# Altium schematic symbol library fpga_zynq.SchLib: 8 symbols (part 2 of 3)
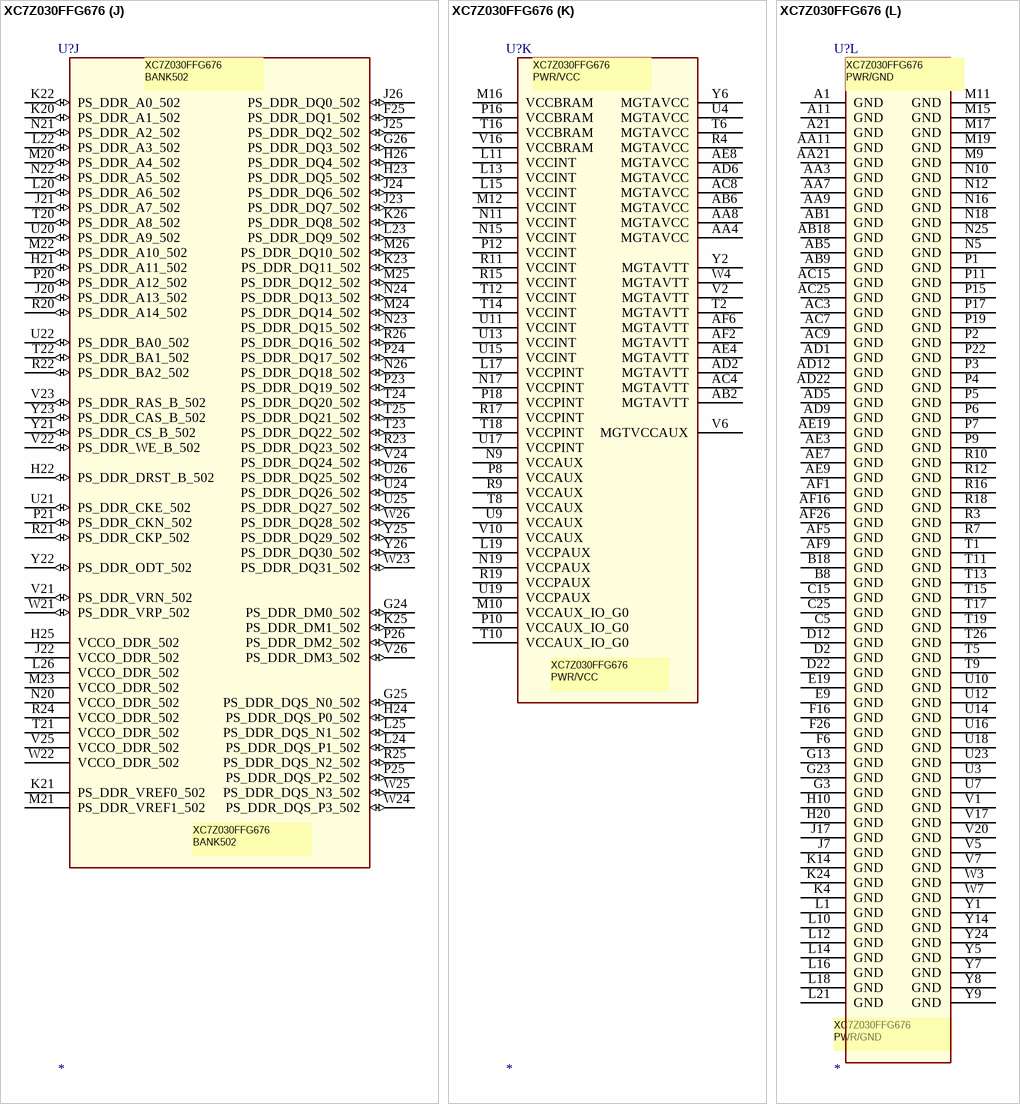
[diagram p25: symbol XC7Z030FFG676]

## XC7Z030FFG676
designator U?
MANF: Xilinx; MANF_P#: XC7Z030FFG676A; VALUE: XC7Z030FFG676A
footprint BGA80_484_S19 (BGA, 484-Leads, Body 19.0x19.0mm,  Pitch 0.80mm)
part A pins: M13 GNDADC_0 (io), M14 VCCADC_0 (io), N13 VREFN_0 (io), N14 VP_0 (io), P13 VN_0 (io), P14 VREFP_0 (io), R8 INIT_B_0 (io), R13 DXN_0 (io), R14 DXP_0 (io), T7 CFGBVS_0 (io), U8 RSVDVCC3 (io), V8 RSVDVCC2 (io), V9 PROGRAM_B_0 (io), V11 TDI_0 (io), V12 VCCO_0 (power), V13 RSVDGND (io), V14 VCCO_0 (power), V15 VCCBATT_0 (io), W8 RSVDVCC1 (io), W9 DONE_0 (io), W10 TDO_0, W11 TMS_0 (io), W12 TCK_0 (io)
part B pins: AA10 IO_L3N_T0_DQS_12 (io), AA12 IO_L6N_T0_VREF_12 (io), AA13 IO_L6P_T0_12 (io), AA14 IO_L22N_T3_12 (io), AA15 IO_L22P_T3_12 (io), AA16 VCCO_12 (power), AA17 IO_L19N_T3_VREF_12 (io), AB10 IO_L4N_T0_12 (io), AB11 IO_L4P_T0_12 (io), AB12 IO_L2P_T0_12 (io), AB13 VCCO_12 (power), AB14 IO_L14N_T2_SRCC_12 (io), AB15 IO_L14P_T2_SRCC_12 (io), AB16 IO_L20N_T3_12 (io), AB17 IO_L20P_T3_12 (io), AC10 VCCO_12 (power), AC11 IO_L2N_T0_12 (io), AC12 IO_L11P_T1_SRCC_12 (io), AC13 IO_L12P_T1_MRCC_12 (io), AC14 IO_L13P_T2_MRCC_12 (io), AC16 IO_L21N_T3_DQS_12 (io), AC17 IO_L21P_T3_DQS_12 (io), AD10 IO_L7N_T1_12 (io), AD11 IO_L11N_T1_SRCC_12 (io), AD13 IO_L12N_T1_MRCC_12 (io), AD14 IO_L13N_T2_MRCC_12 (io), AD15 IO_L15N_T2_DQS_12 (io), AD16 IO_L15P_T2_DQS_12 (io), AD17 VCCO_12 (power), AE10 IO_L7P_T1_12 (io), AE11 IO_L9P_T1_DQS_12 (io), AE12 IO_L8P_T1_12 (io), AE13 IO_L10P_T1_12 (io), AE14 VCCO_12 (power), AE15 IO_L17N_T2_12 (io), AE16 IO_L17P_T2_12 (io), AE17 IO_L18P_T2_12 (io), AF10 IO_L9N_T1_DQS_12 (io), AF11 VCCO_12 (power), AF12 IO_L8N_T1_12 (io), AF13 IO_L10N_T1_12 (io), AF14 IO_L16N_T2_12 (io), AF15 IO_L16P_T2_12 (io), AF17 IO_L18N_T2_12 (io), W13 IO_L5P_T0_12 (io), W14 IO_0_12 (io), W15 IO_L24N_T3_12 (io), W16 IO_L24P_T3_12 (io), W17 IO_25_12 (io), Y10 IO_L3P_T0_DQS_12 (io), Y11 IO_L1N_T0_12 (io), Y12 IO_L1P_T0_12 (io), Y13 IO_L5N_T0_12 (io), Y15 IO_L23N_T3_12 (io), Y16 IO_L23P_T3_12 (io), Y17 IO_L19P_T3_12 (io)
part C pins: AA18 IO_L24N_T3_13 (io), AA19 IO_L22P_T3_13 (io), AA20 IO_L20P_T3_13 (io), AA22 IO_L10P_T1_13 (io), AA23 IO_L10N_T1_13 (io), AA24 IO_L6P_T0_13 (io), AA25 IO_L1P_T0_13 (io), AA26 VCCO_13 (power), AB19 IO_L22N_T3_13 (io), AB20 IO_L20N_T3_13 (io), AB21 IO_L9P_T1_DQS_13 (io), AB22 IO_L9N_T1_DQS_13 (io), AB23 VCCO_13 (power), AB24 IO_L6N_T0_VREF_13 (io), AB25 IO_L1N_T0_13 (io), AB26 IO_L2P_T0_13 (io), AC18 IO_L21P_T3_DQS_13 (io), AC19 IO_L21N_T3_DQS_13 (io), AC20 VCCO_13 (power), AC21 IO_L14P_T2_SRCC_13 (io), AC22 IO_L14N_T2_SRCC_13 (io), AC23 IO_L12P_T1_MRCC_13 (io), AC24 IO_L12N_T1_MRCC_13 (io), AC26 IO_L2N_T0_13 (io), AD18 IO_L17P_T2_13 (io), AD19 IO_L17N_T2_13 (io), AD20 IO_L13P_T2_MRCC_13 (io), AD21 IO_L13N_T2_MRCC_13 (io), AD23 IO_L11P_T1_SRCC_13 (io), AD24 IO_L11N_T1_SRCC_13 (io), AD25 IO_L4P_T0_13 (io), AD26 IO_L4N_T0_13 (io), AE18 IO_L18P_T2_13 (io), AE20 IO_L16P_T2_13 (io), AE21 IO_L16N_T2_13 (io), AE22 IO_L7P_T1_13 (io), AE23 IO_L8P_T1_13 (io), AE24 VCCO_13 (power), AE25 IO_L3P_T0_DQS_13 (io), AE26 IO_L3N_T0_DQS_13 (io), AF18 IO_L18N_T2_13 (io), AF19 IO_L15P_T2_DQS_13 (io), AF20 IO_L15N_T2_DQS_13 (io), AF21 VCCO_13 (power), AF22 IO_L7N_T1_13 (io), AF23 IO_L8N_T1_13 (io), AF24 IO_L5P_T0_13 (io), AF25 IO_L5N_T0_13 (io), V18 IO_25_13 (io), V19 IO_0_13 (io), W18 IO_L23P_T3_13 (io), W19 IO_L23N_T3_13 (io), W20 IO_L19P_T3_13 (io), Y18 IO_L24P_T3_13 (io), Y19 VCCO_13 (power), Y20 IO_L19N_T3_VREF_13 (io)
part D pins: C1 IO_L4N_T0_33 (io), D1 IO_L4P_T0_33 (io), D3 IO_L2N_T0_33 (io), D4 IO_L2P_T0_33 (io), E1 IO_L5N_T0_33 (io), E2 IO_L5P_T0_33 (io), E3 IO_L6N_T0_VREF_33 (io), E4 VCCO_33 (power), F1 VCCO_33 (power), F2 IO_L3N_T0_DQS_33 (io), F3 IO_L6P_T0_33 (io), F4 IO_L1N_T0_33 (io), G1 IO_L10N_T1_33 (io), G2 IO_L3P_T0_DQS_33 (io), G4 IO_L1P_T0_33 (io), H1 IO_L7N_T1_33 (io), H2 IO_L10P_T1_33 (io), H3 IO_L8N_T1_33 (io), H4 IO_L8P_T1_33 (io), H5 VCCO_33 (power), J1 IO_L7P_T1_33 (io), J2 VCCO_33 (power), J3 IO_L12N_T1_MRCC_33 (io), J4 IO_L12P_T1_MRCC_33 (io), J5 IO_L20N_T3_33 (io), J6 IO_L22N_T3_33 (io), K1 IO_L9N_T1_DQS_33 (io), K2 IO_L9P_T1_DQS_33 (io), K3 IO_L11N_T1_SRCC_33 (io), K5 IO_L20P_T3_33 (io), K6 IO_L22P_T3_33 (io), K7 IO_L24N_T3_33 (io), K8 IO_L24P_T3_33 (io), L2 IO_L16N_T2_33 (io), L3 IO_L11P_T1_SRCC_33 (io), L4 IO_L14N_T2_SRCC_33 (io), L5 IO_L14P_T2_SRCC_33 (io), L6 VCCO_33 (power), L7 IO_L19N_T3_VREF_33 (io), L8 IO_L21N_T3_DQS_33 (io), L9 IO_0_VRN_33 (io), M1 IO_L18N_T2_33 (io), M2 IO_L16P_T2_33 (io), M3 VCCO_33 (power), M4 IO_L17N_T2_33 (io), M5 IO_L13N_T2_MRCC_33 (io), M6 IO_L13P_T2_MRCC_33 (io), M7 IO_L19P_T3_33 (io), M8 IO_L21P_T3_DQS_33 (io), N1 IO_L18P_T2_33 (io), N2 IO_L15N_T2_DQS_33 (io), N3 IO_L15P_T2_DQS_33 (io), N4 IO_L17P_T2_33 (io), N6 IO_L23N_T3_33 (io), N7 IO_L23P_T3_33 (io), N8 IO_25_VRP_33 (io)
part E pins: A2 IO_L24N_T3_34 (io), A3 IO_L22N_T3_34 (io), A4 IO_L22P_T3_34 (io), A5 IO_L21N_T3_DQS_34 (io), A6 VCCO_34 (power), A7 IO_L18N_T2_34 (io), A8 IO_L17N_T2_34 (io), A9 IO_L17P_T2_34 (io), A10 IO_L16N_T2_34 (io), B1 IO_L23N_T3_34 (io), B2 IO_L24P_T3_34 (io), B3 VCCO_34 (power), B4 IO_L20N_T3_34 (io), B5 IO_L20P_T3_34 (io), B6 IO_L21P_T3_DQS_34 (io), B7 IO_L18P_T2_34 (io), B9 IO_L15N_T2_DQS_34 (io), B10 IO_L16P_T2_34 (io), C2 IO_L23P_T3_34 (io), C3 IO_L19N_T3_VREF_34 (io), C4 IO_L19P_T3_34 (io), C6 IO_L14N_T2_SRCC_34 (io), C7 IO_L13N_T2_MRCC_34 (io), C8 IO_L13P_T2_MRCC_34 (io), C9 IO_L15P_T2_DQS_34 (io), C10 VCCO_34 (power), D5 IO_L10N_T1_34 (io), D6 IO_L14P_T2_SRCC_34 (io), D7 VCCO_34 (power), D8 IO_L8N_T1_34 (io), D9 IO_L8P_T1_34 (io), E5 IO_L7N_T1_34 (io), E6 IO_L10P_T1_34 (io), E7 IO_L11N_T1_SRCC_34 (io), E8 IO_L9N_T1_DQS_34 (io), F5 IO_L7P_T1_34 (io), F7 IO_L12N_T1_MRCC_34 (io), F8 IO_L11P_T1_SRCC_34 (io), F9 IO_L9P_T1_DQS_34 (io), G5 IO_L2N_T0_34 (io), G6 IO_L2P_T0_34 (io), G7 IO_L12P_T1_MRCC_34 (io), G8 VCCO_34 (power), G9 IO_L3N_T0_DQS_34 (io), H6 IO_L4N_T0_34 (io), H7 IO_L4P_T0_34 (io), H8 IO_L6N_T0_VREF_34 (io), H9 IO_L3P_T0_DQS_PUDC_B_34 (io), H11 IO_L1N_T0_34 (io), J8 IO_L6P_T0_34 (io), J9 IO_L5N_T0_34 (io), J10 IO_L5P_T0_34 (io), J11 IO_L1P_T0_34 (io), K9 VCCO_34 (power), K10 IO_25_VRP_34 (io), K11 IO_0_VRN_34 (io)
part F pins: A12 IO_L24N_T3_AD15N_35 (io), A13 IO_L24P_T3_AD15P_35 (io), A14 IO_L21N_T3_DQS_AD14N_35 (io), A15 IO_L21P_T3_DQS_AD14P_35 (io), A16 VCCO_35 (power), A17 IO_L18N_T2_AD13N_35 (io), B11 IO_L23N_T3_35 (io), B12 IO_L22N_T3_AD7N_35 (io), B13 VCCO_35 (power), B14 IO_L20N_T3_AD6N_35 (io), B15 IO_L17N_T2_AD5N_35 (io), B16 IO_L17P_T2_AD5P_35 (io), B17 IO_L18P_T2_AD13P_35 (io), C11 IO_L23P_T3_35 (io), C12 IO_L22P_T3_AD7P_35 (io), C13 IO_L19N_T3_VREF_35 (io), C14 IO_L20P_T3_AD6P_35 (io), C16 IO_L15N_T2_DQS_AD12N_35 (io), C17 IO_L15P_T2_DQS_AD12P_35 (io), D10 IO_L2N_T0_AD8N_35 (io), D11 IO_L4N_T0_35 (io), D13 IO_L19P_T3_35 (io), D14 IO_L13N_T2_MRCC_35 (io), D15 IO_L13P_T2_MRCC_35 (io), D16 IO_L16N_T2_35 (io), E10 IO_L2P_T0_AD8P_35 (io), E11 IO_L4P_T0_35 (io), E12 IO_L1N_T0_AD0N_35 (io), E13 IO_L6N_T0_VREF_35 (io), E14 VCCO_35 (power), E15 IO_L14N_T2_AD4N_SRCC_35 (io), E16 IO_L16P_T2_35 (io), F10 IO_L3N_T0_DQS_AD1N_35 (io), F11 VCCO_35 (power), F12 IO_L1P_T0_AD0P_35 (io), F13 IO_L6P_T0_35 (io), F14 IO_L11N_T1_SRCC_35 (io), F15 IO_L14P_T2_AD4P_SRCC_35 (io), G10 IO_L3P_T0_DQS_AD1P_35 (io), G11 IO_L5N_T0_AD9N_35 (io), G12 IO_L5P_T0_AD9P_35 (io), G14 IO_L11P_T1_SRCC_35 (io), G15 IO_L10N_T1_AD11N_35 (io), G16 IO_L10P_T1_AD11P_35 (io), H12 IO_L7N_T1_AD2N_35 (io), H13 IO_L7P_T1_AD2P_35 (io), H14 IO_L12N_T1_MRCC_35 (io), H15 VCCO_35 (power), H16 IO_0_VRN_35 (io), J12 VCCO_35 (power), J13 IO_L8N_T1_AD10N_35 (io), J14 IO_L12P_T1_MRCC_35 (io), J15 IO_L9N_T1_DQS_AD3N_35 (io), K12 IO_25_VRP_35 (io), K13 IO_L8P_T1_AD10P_35 (io), K15 IO_L9P_T1_DQS_AD3P_35 (io)
part G pins: AA1 MGTXTXN0_112 (io), AA2 MGTXTXP0_112 (io), AB3 MGTXRXN0_112 (io), AB4 MGTXRXP0_112 (io), AB7 MGTAVTTRCAL_112 (io), AB8 MGTRREF_112 (io), R1 MGTXTXN3_112 (io), R2 MGTXTXP3_112 (io), R5 MGTREFCLK0N_112 (io), R6 MGTREFCLK0P_112 (io), T3 MGTXRXN3_112 (io), T4 MGTXRXP3_112 (io), U1 MGTXTXN2_112 (io), U2 MGTXTXP2_112 (io), U5 MGTREFCLK1N_112 (io), U6 MGTREFCLK1P_112 (io), V3 MGTXRXN2_112 (io), V4 MGTXRXP2_112 (io), W1 MGTXTXN1_112 (io), W2 MGTXTXP1_112 (io), Y3 MGTXRXN1_112 (io), Y4 MGTXRXP1_112 (io)
part H pins: A23 PS_MIO12_500 (io), A24 PS_MIO8_500 (io), A25 PS_MIO10_500 (io), A26 VCCO_MIO0_500 (power), B23 VCCO_MIO0_500 (power), B24 PS_CLK_500 (io), B25 PS_MIO13_500 (io), B26 PS_MIO11_500 (io), C23 PS_POR_B_500 (io), C24 PS_MIO15_500 (io), C26 PS_MIO5_500 (io), D23 PS_MIO14_500 (io), D24 PS_MIO9_500 (io), D25 PS_MIO3_500 (io), D26 PS_MIO1_500 (io), E23 PS_MIO7_500 (io), E24 VCCO_MIO0_500 (power), E25 PS_MIO2_500 (io), E26 PS_MIO0_500 (io), F23 PS_MIO6_500 (io), F24 PS_MIO4_500 (io)
part I pins: A18 PS_MIO49_501 (io), A19 PS_MIO53_501 (io), A20 PS_MIO52_501 (io), A22 PS_SRST_B_501 (io), B19 PS_MIO47_501 (io), B20 PS_MIO51_501 (io), B21 PS_MIO48_501 (io), B22 PS_MIO50_501 (io), C18 PS_MIO45_501 (io), C19 PS_MIO41_501 (io), C20 VCCO_MIO1_501 (power), C21 PS_MIO39_501 (io), C22 PS_MIO40_501 (io), D17 VCCO_MIO1_501 (power), D18 PS_MIO43_501 (io), D19 PS_MIO35_501 (io), D20 PS_MIO37_501 (io), D21 PS_MIO38_501 (io), E17 PS_MIO46_501 (io), E18 PS_MIO44_501 (io), E20 PS_MIO29_501 (io), E21 PS_MIO31_501 (io), E22 PS_MIO33_501 (io), F17 PS_MIO42_501 (io), F18 PS_MIO27_501 (io), F19 PS_MIO25_501 (io), F20 PS_MIO23_501 (io), F21 VCCO_MIO1_501 (power), F22 PS_MIO21_501 (io), G17 PS_MIO17_501 (io), G18 VCCO_MIO1_501 (power), G19 PS_MIO19_501 (io), G20 PS_MIO18_501 (io), G21 PS_MIO16_501 (io), G22 PS_MIO22_501 (io), H17 PS_MIO26_501 (io), H18 PS_MIO_VREF_501 (io), H19 PS_MIO20_501 (io), J16 PS_MIO34_501 (io), J18 PS_MIO28_501 (io), J19 PS_MIO24_501 (io), K16 PS_MIO36_501 (io), K17 PS_MIO32_501 (io), K18 VCCO_MIO1_501 (power), K19 PS_MIO30_501 (io)
part J pins: F25 PS_DDR_DQ1_502 (io), G24 PS_DDR_DM0_502 (io), G25 PS_DDR_DQS_N0_502 (io), G26 PS_DDR_DQ3_502 (io), H21 PS_DDR_A11_502 (io), H22 PS_DDR_DRST_B_502 (io), H23 PS_DDR_DQ5_502 (io), H24 PS_DDR_DQS_P0_502 (io), H25 VCCO_DDR_502 (power), H26 PS_DDR_DQ4_502 (io), J20 PS_DDR_A13_502 (io), J21 PS_DDR_A7_502 (io), J22 VCCO_DDR_502 (power), J23 PS_DDR_DQ7_502 (io), J24 PS_DDR_DQ6_502 (io), J25 PS_DDR_DQ2_502 (io), J26 PS_DDR_DQ0_502 (io), K20 PS_DDR_A1_502 (io), K21 PS_DDR_VREF0_502 (power), K22 PS_DDR_A0_502 (io), K23 PS_DDR_DQ11_502 (io), K25 PS_DDR_DM1_502 (io), K26 PS_DDR_DQ8_502 (io), L20 PS_DDR_A6_502 (io), L22 PS_DDR_A3_502 (io), L23 PS_DDR_DQ9_502 (io), L24 PS_DDR_DQS_P1_502 (io), L25 PS_DDR_DQS_N1_502 (io), L26 VCCO_DDR_502 (power), M20 PS_DDR_A4_502 (io), M21 PS_DDR_VREF1_502 (power), M22 PS_DDR_A10_502 (io), M23 VCCO_DDR_502 (power), M24 PS_DDR_DQ14_502 (io), M25 PS_DDR_DQ12_502 (io), M26 PS_DDR_DQ10_502 (io), N20 VCCO_DDR_502 (power), N21 PS_DDR_A2_502 (io), N22 PS_DDR_A5_502 (io), N23 PS_DDR_DQ15_502 (io), N24 PS_DDR_DQ13_502 (io), N26 PS_DDR_DQ18_502 (io), P20 PS_DDR_A12_502 (io), P21 PS_DDR_CKN_502 (io), P23 PS_DDR_DQ19_502 (io), P24 PS_DDR_DQ17_502 (io), P25 PS_DDR_DQS_P2_502 (io), P26 PS_DDR_DM2_502 (io), R20 PS_DDR_A14_502 (io), R21 PS_DDR_CKP_502 (io), R22 PS_DDR_BA2_502 (io), R23 PS_DDR_DQ23_502 (io), R24 VCCO_DDR_502 (power), R25 PS_DDR_DQS_N2_502 (io), R26 PS_DDR_DQ16_502 (io), T20 PS_DDR_A8_502 (io), T21 VCCO_DDR_502 (power), T22 PS_DDR_BA1_502 (io), T23 PS_DDR_DQ22_502 (io), T24 PS_DDR_DQ20_502 (io), T25 PS_DDR_DQ21_502 (io), U20 PS_DDR_A9_502 (io), U21 PS_DDR_CKE_502 (io), U22 PS_DDR_BA0_502 (io), U24 PS_DDR_DQ26_502 (io), U25 PS_DDR_DQ27_502 (io), U26 PS_DDR_DQ25_502 (io), V21 PS_DDR_VRN_502 (io), V22 PS_DDR_WE_B_502 (io), V23 PS_DDR_RAS_B_502 (io), V24 PS_DDR_DQ24_502 (io), V25 VCCO_DDR_502 (power), V26 PS_DDR_DM3_502 (io), W21 PS_DDR_VRP_502 (io), W22 VCCO_DDR_502 (power), W23 PS_DDR_DQ31_502 (io), W24 PS_DDR_DQS_P3_502 (io), W25 PS_DDR_DQS_N3_502 (io), W26 PS_DDR_DQ28_502 (io), Y21 PS_DDR_CS_B_502 (io), Y22 PS_DDR_ODT_502 (io), Y23 PS_DDR_CAS_B_502 (io), Y25 PS_DDR_DQ29_502 (io), Y26 PS_DDR_DQ30_502 (io)
part K pins: AA4 MGTAVCC (power), AA8 MGTAVCC (power), AB2 MGTAVTT (power), AB6 MGTAVCC (power), AC4 MGTAVTT (power), AC8 MGTAVCC (power), AD2 MGTAVTT (power), AD6 MGTAVCC (power), AE4 MGTAVTT (power), AE8 MGTAVCC (power), AF2 MGTAVTT (power), AF6 MGTAVTT (power), L11 VCCINT (power), L13 VCCINT (power), L15 VCCINT (power), L17 VCCPINT (power), L19 VCCPAUX (power), M10 VCCAUX_IO_G0 (power), M12 VCCINT (power), M16 VCCBRAM (power), N9 VCCAUX (power), N11 VCCINT (power), N15 VCCINT (power), N17 VCCPINT (power), N19 VCCPAUX (power), P8 VCCAUX (power), P10 VCCAUX_IO_G0 (power), P12 VCCINT (power), P16 VCCBRAM (power), P18 VCCPINT (power), R4 MGTAVCC (power), R9 VCCAUX (power), R11 VCCINT (power), R15 VCCINT (power), R17 VCCPINT (power), R19 VCCPAUX (power), T2 MGTAVTT (power), T6 MGTAVCC (power), T8 VCCAUX (power), T10 VCCAUX_IO_G0 (power), T12 VCCINT (power), T14 VCCINT (power), T16 VCCBRAM (power), T18 VCCPINT (power), U4 MGTAVCC (power), U9 VCCAUX (power), U11 VCCINT (power), U13 VCCINT (power), U15 VCCINT (power), U17 VCCPINT (power), U19 VCCPAUX (power), V2 MGTAVTT (power), V6 MGTVCCAUX (power), V10 VCCAUX (power), V16 VCCBRAM (power), W4 MGTAVTT (power), Y2 MGTAVTT (power), Y6 MGTAVCC (power)
part L pins: A1 GND (power), A11 GND (power), A21 GND (power), AA3 GND (power), AA7 GND (power), AA9 GND (power), AA11 GND (power), AA21 GND (power), AB1 GND (power), AB5 GND (power), AB9 GND (power), AB18 GND (power), AC3 GND (power), AC7 GND (power), AC9 GND (power), AC15 GND (power), AC25 GND (power), AD1 GND (power), AD5 GND (power), AD9 GND (power), AD12 GND (power), AD22 GND (power), AE3 GND (power), AE7 GND (power), AE9 GND (power), AE19 GND (power), AF1 GND (power), AF5 GND (power), AF9 GND (power), AF16 GND (power), AF26 GND (power), B8 GND (power), B18 GND (power), C5 GND (power), C15 GND (power), C25 GND (power), D2 GND (power), D12 GND (power), D22 GND (power), E9 GND (power), E19 GND (power), F6 GND (power), F16 GND (power), F26 GND (power), G3 GND (power), G13 GND (power), G23 GND (power), H10 GND (power), H20 GND (power), J7 GND (power), J17 GND (power), K4 GND (power), K14 GND (power), K24 GND (power), L1 GND (power), L10 GND (power), L12 GND (power), L14 GND (power), L16 GND (power), L18 GND (power), L21 GND (power), M9 GND (power), M11 GND (power), M15 GND (power), M17 GND (power), M19 GND (power), N5 GND (power), N10 GND (power), N12 GND (power), N16 GND (power), N18 GND (power), N25 GND (power), P1 GND (power), P2 GND (power), P3 GND (power), P4 GND (power), P5 GND (power), P6 GND (power), P7 GND (power), P9 GND (power), P11 GND (power), P15 GND (power), P17 GND (power), P19 GND (power), P22 GND (power), R3 GND (power), R7 GND (power), R10 GND (power), R12 GND (power), R16 GND (power), R18 GND (power), T1 GND (power), T5 GND (power), T9 GND (power), T11 GND (power), T13 GND (power), T15 GND (power), T17 GND (power), T19 GND (power), T26 GND (power), U3 GND (power), U7 GND (power), U10 GND (power), U12 GND (power), U14 GND (power), U16 GND (power), U18 GND (power), U23 GND (power), V1 GND (power), V5 GND (power), V7 GND (power), V17 GND (power), V20 GND (power), W3 GND (power), W7 GND (power), Y1 GND (power), Y5 GND (power), Y7 GND (power), Y8 GND (power), Y9 GND (power), Y14 GND (power), Y24 GND (power)
part A text: XC7Z030FFG676 / BANK0
part B text: XC7Z030FFG676 / BANK12
part C text: XC7Z030FFG676 / BANK13
part D text: XC7Z030FFG676 / BANK33
part E text: XC7Z030FFG676 / BANK34
part F text: XC7Z030FFG676 / BANK35
part G text: XC7Z030FFG676 / BANK112
part H text: XC7Z030FFG676 / BANK500
part I text: XC7Z030FFG676 / BANK501
part J text: XC7Z030FFG676 / BANK502
part K text: XC7Z030FFG676 / PWR/VCC
part L text: XC7Z030FFG676 / PWR/GND

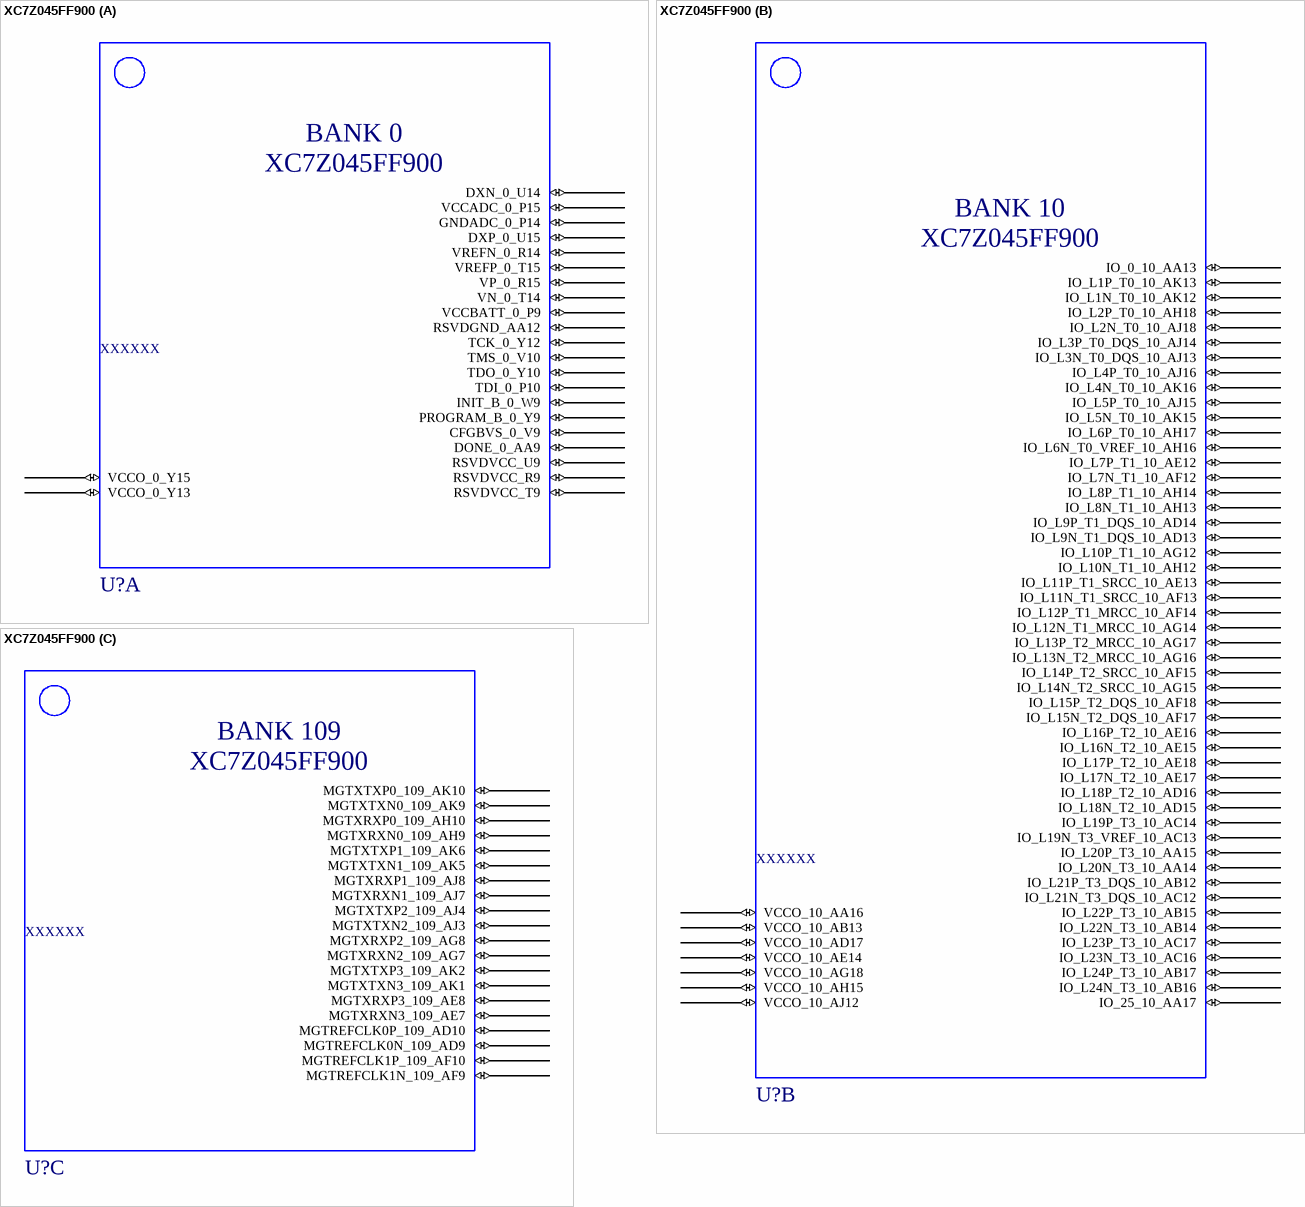
[diagram p12: symbol XC7Z045FF900]

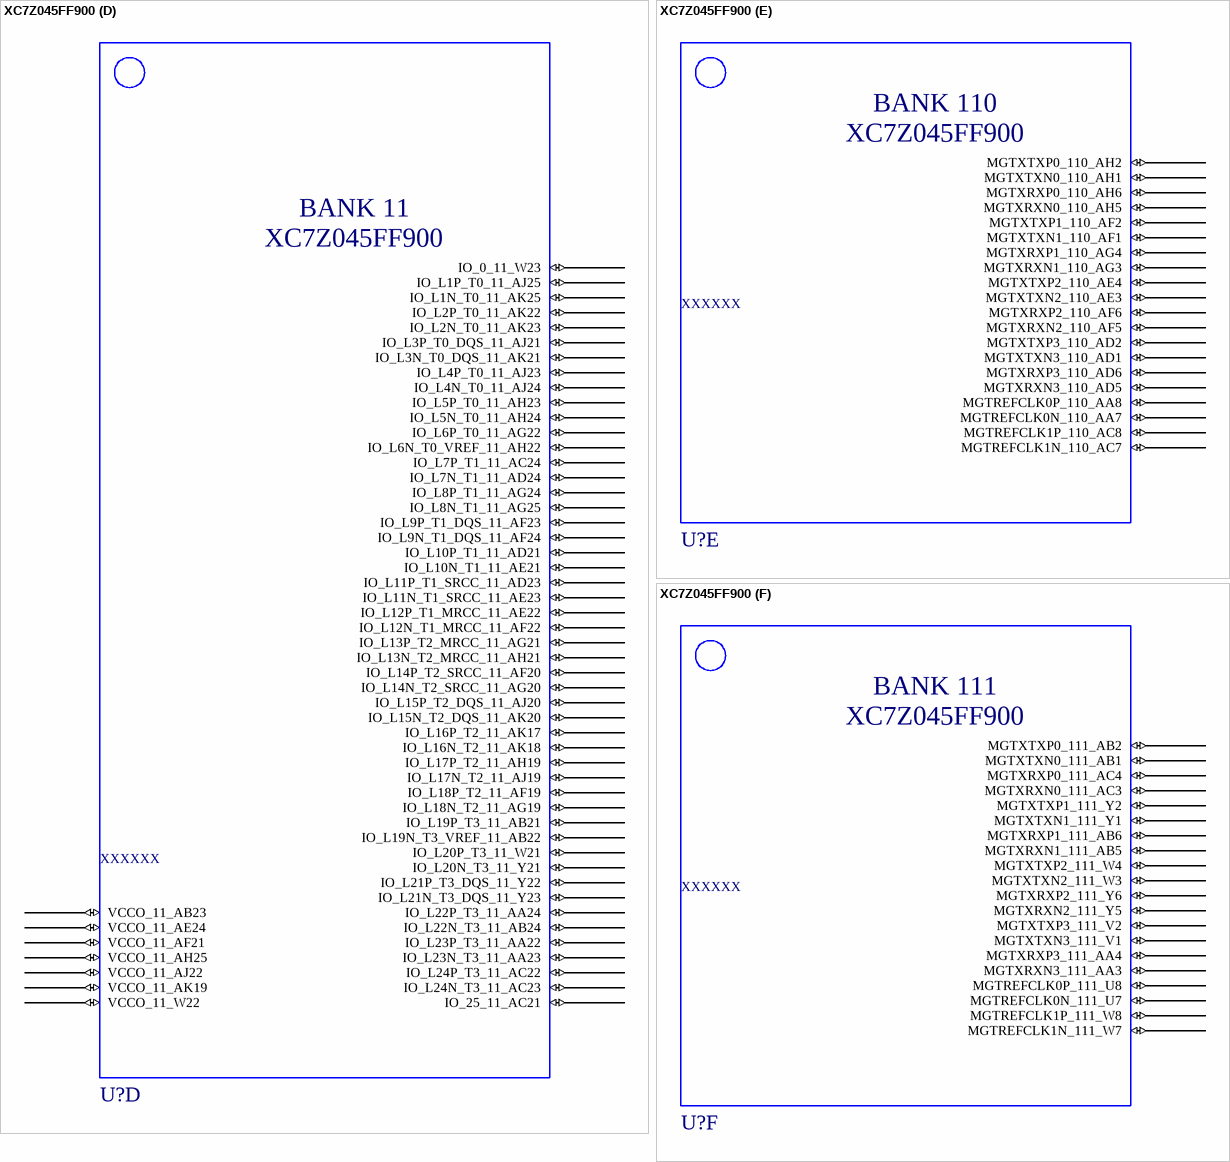
[diagram p13: symbol XC7Z045FF900]

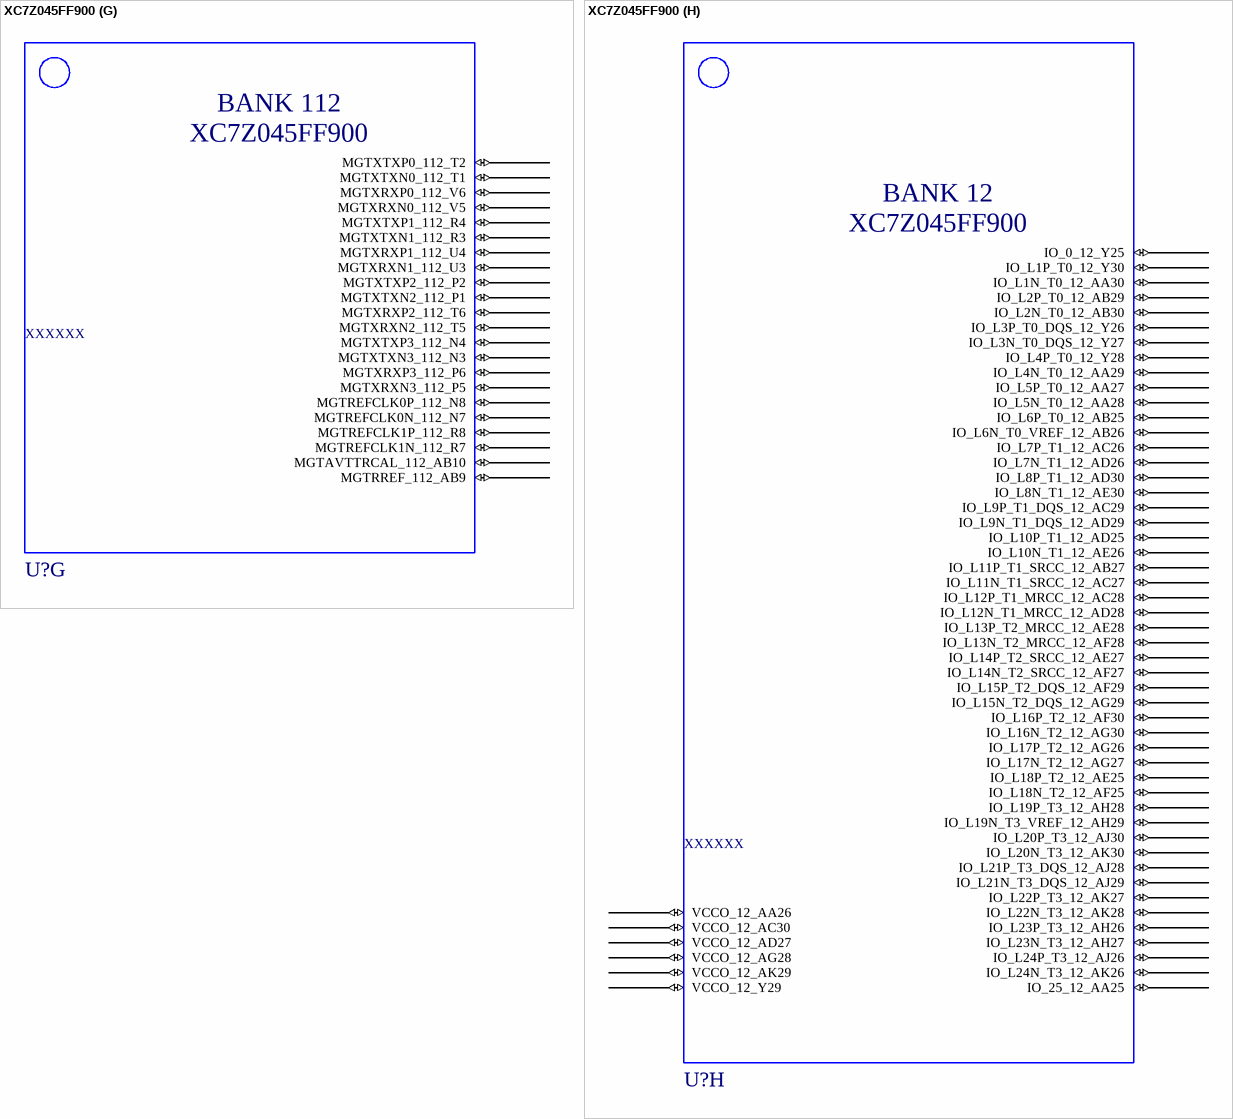
[diagram p14: symbol XC7Z045FF900]

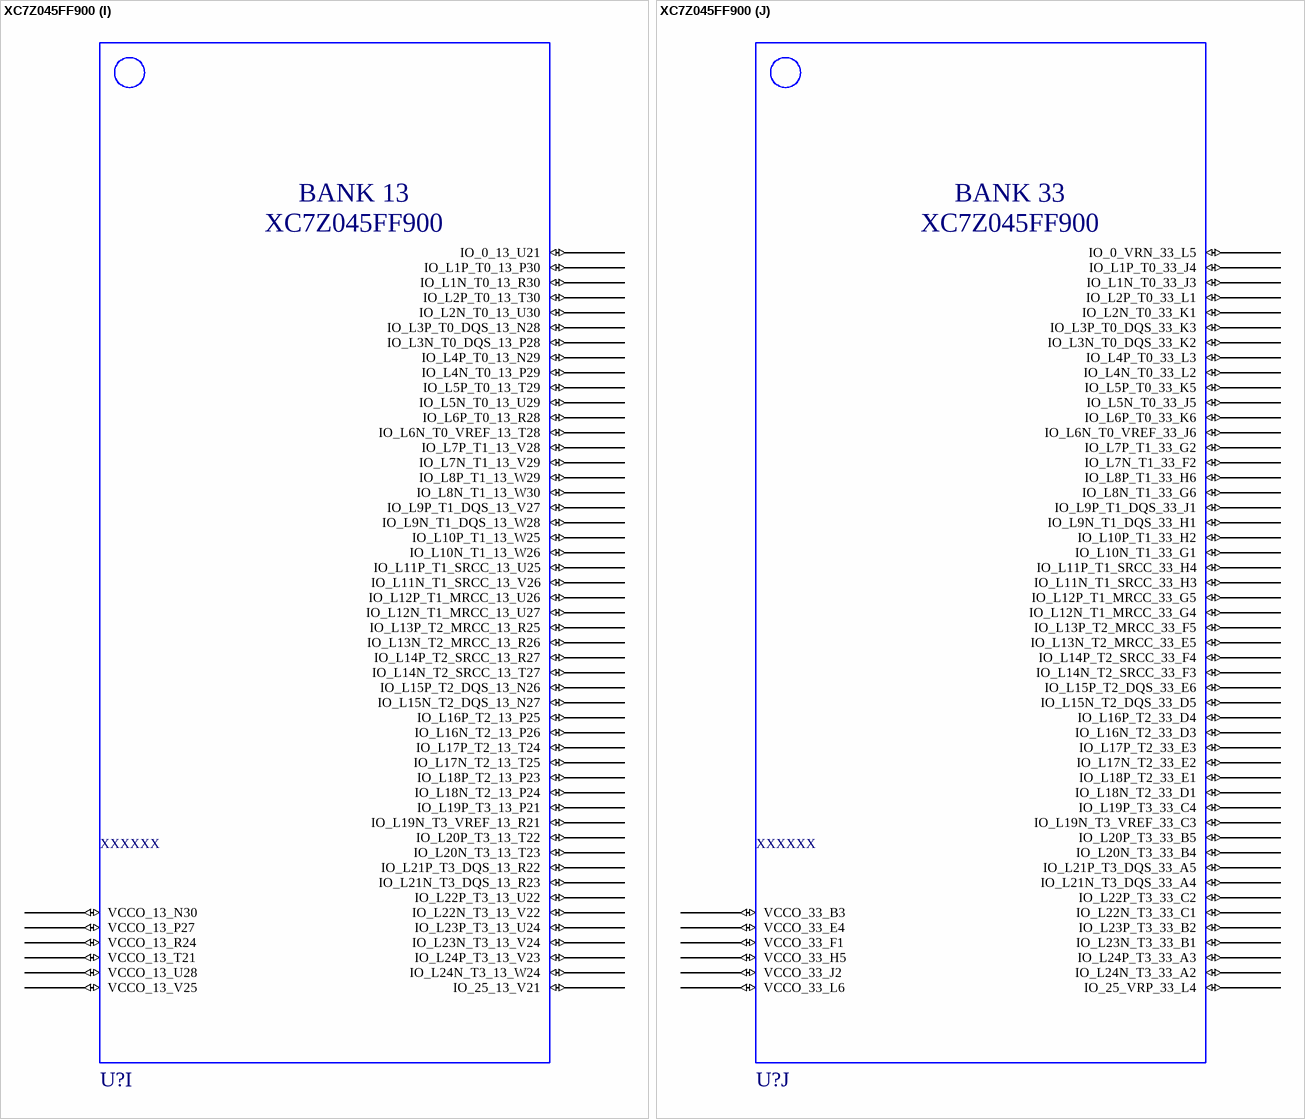
[diagram p15: symbol XC7Z045FF900]

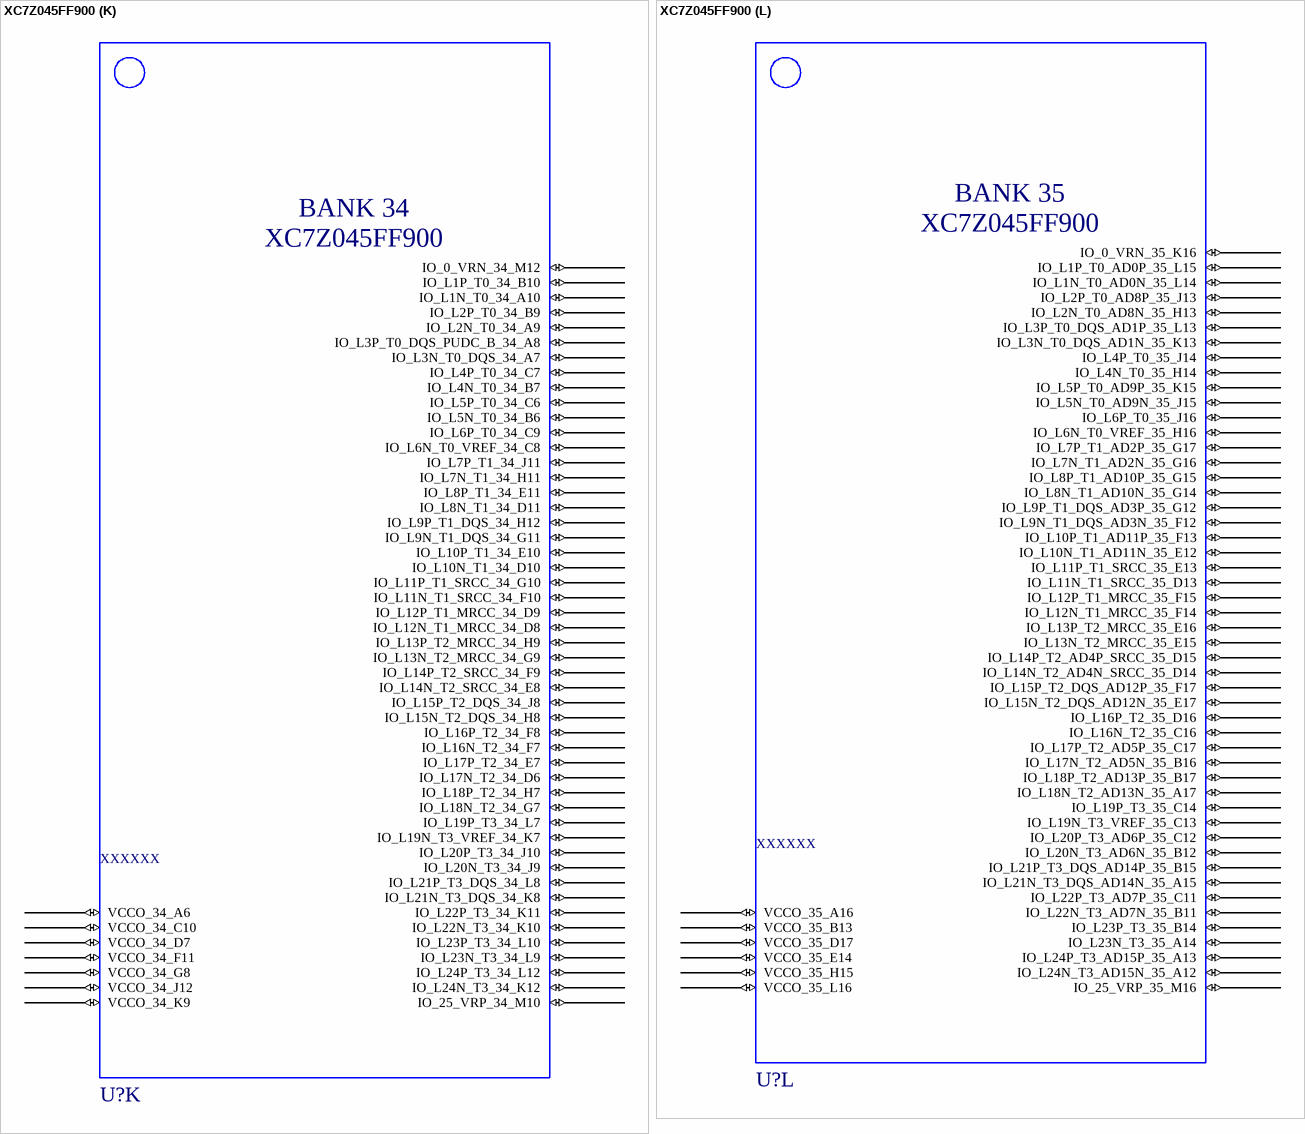
[diagram p16: symbol XC7Z045FF900]

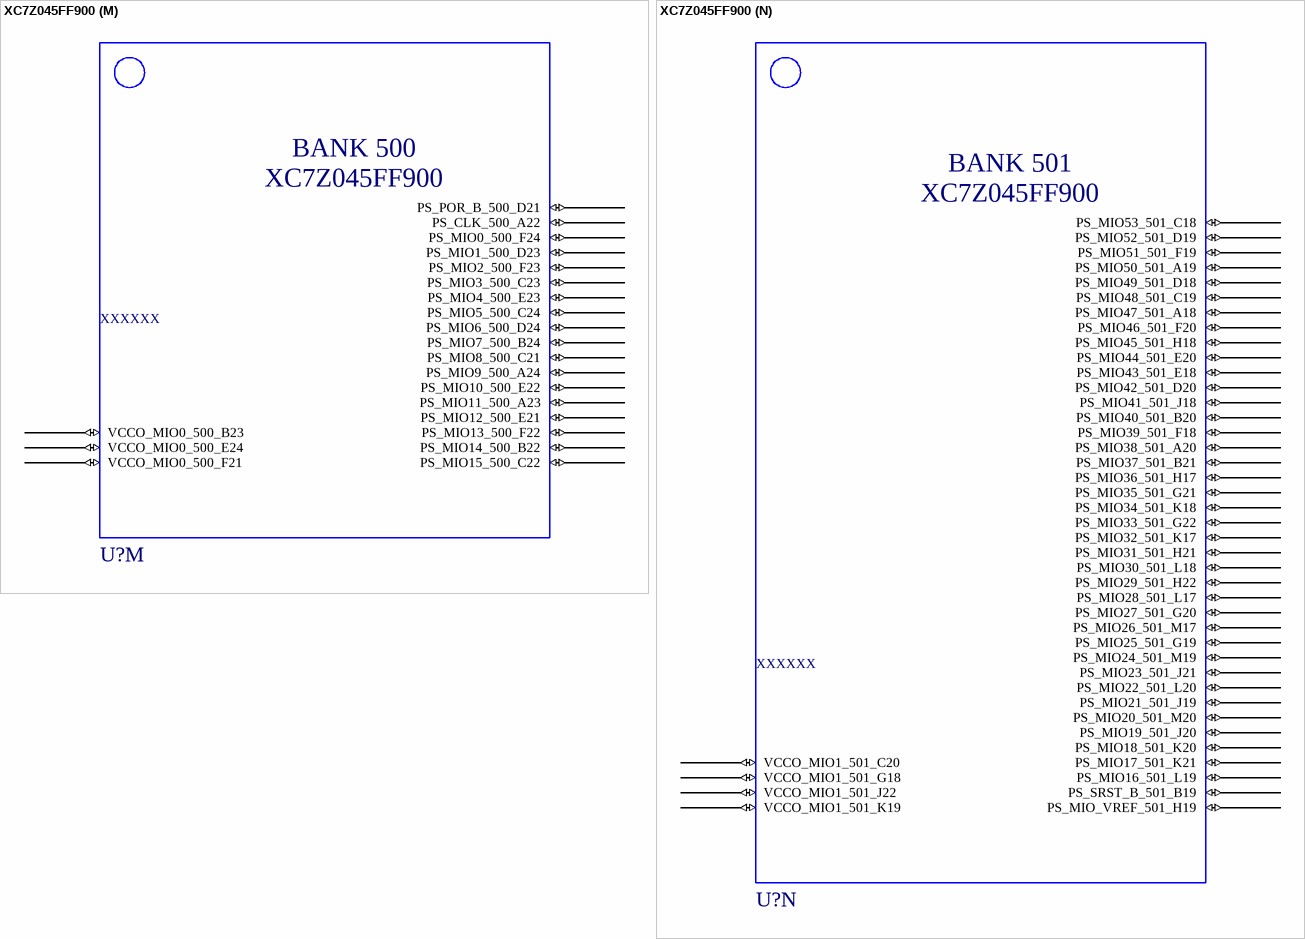
[diagram p17: symbol XC7Z045FF900]

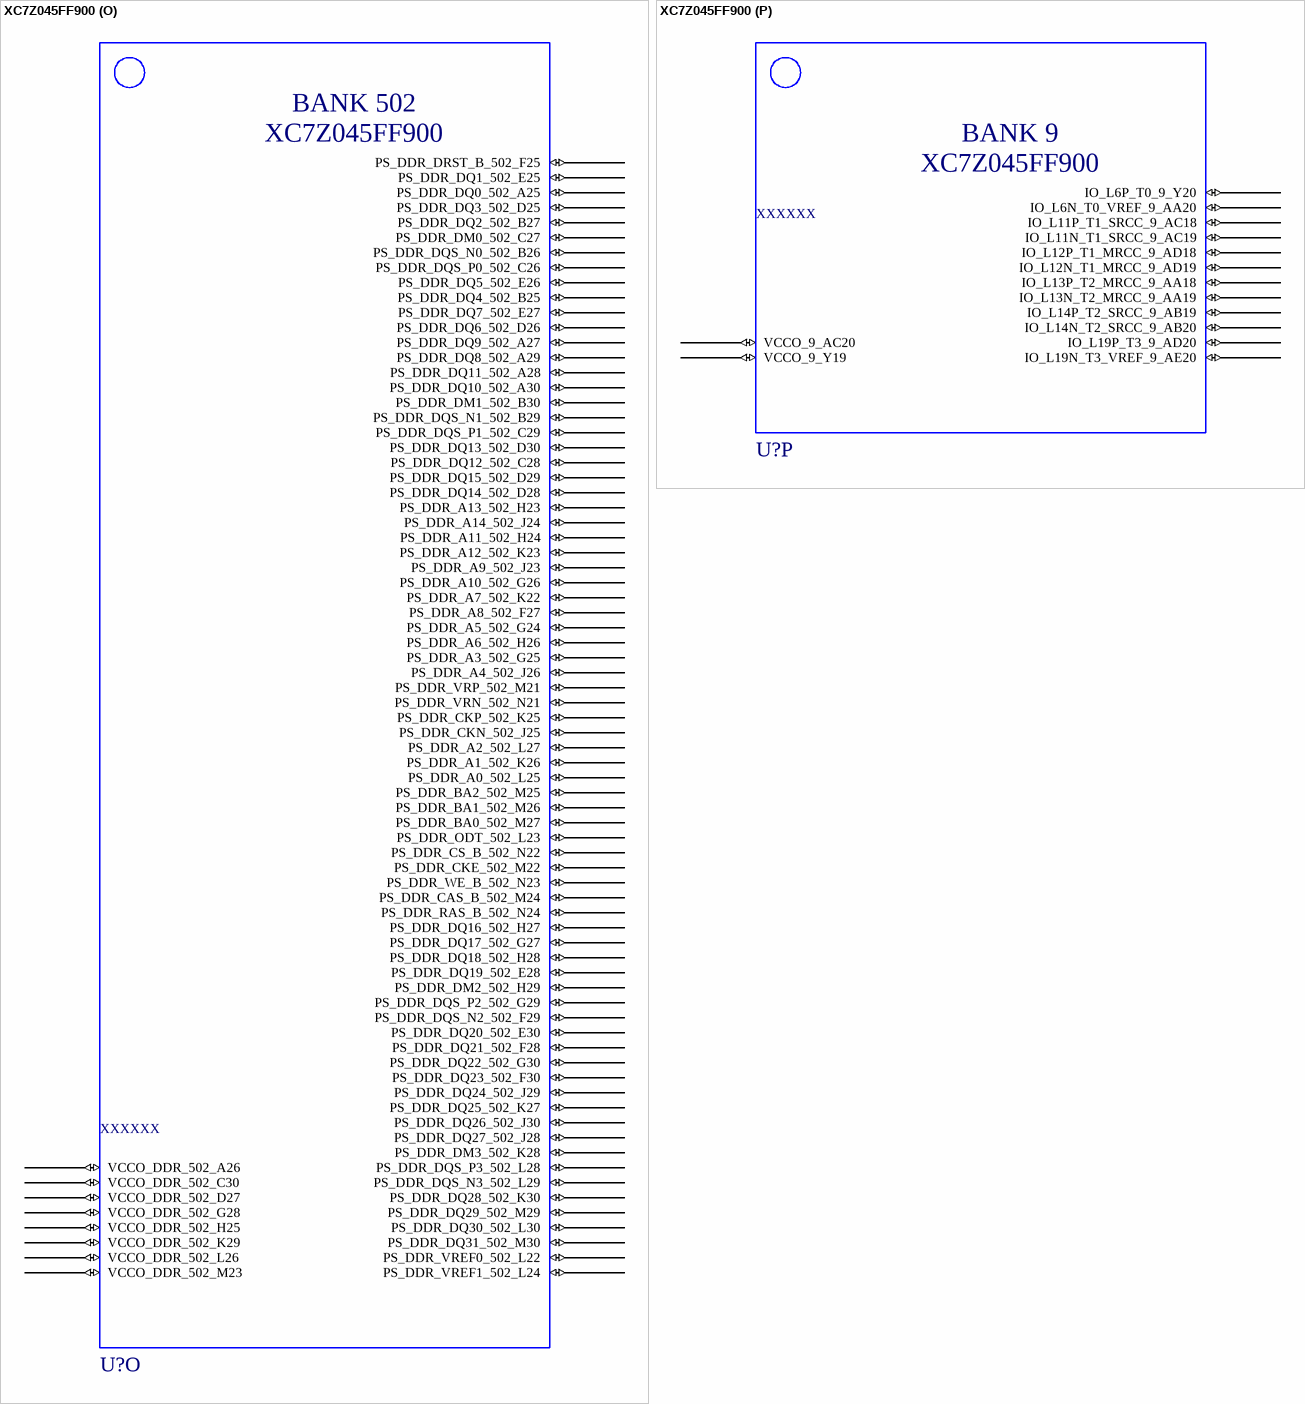
[diagram p18: symbol XC7Z045FF900]

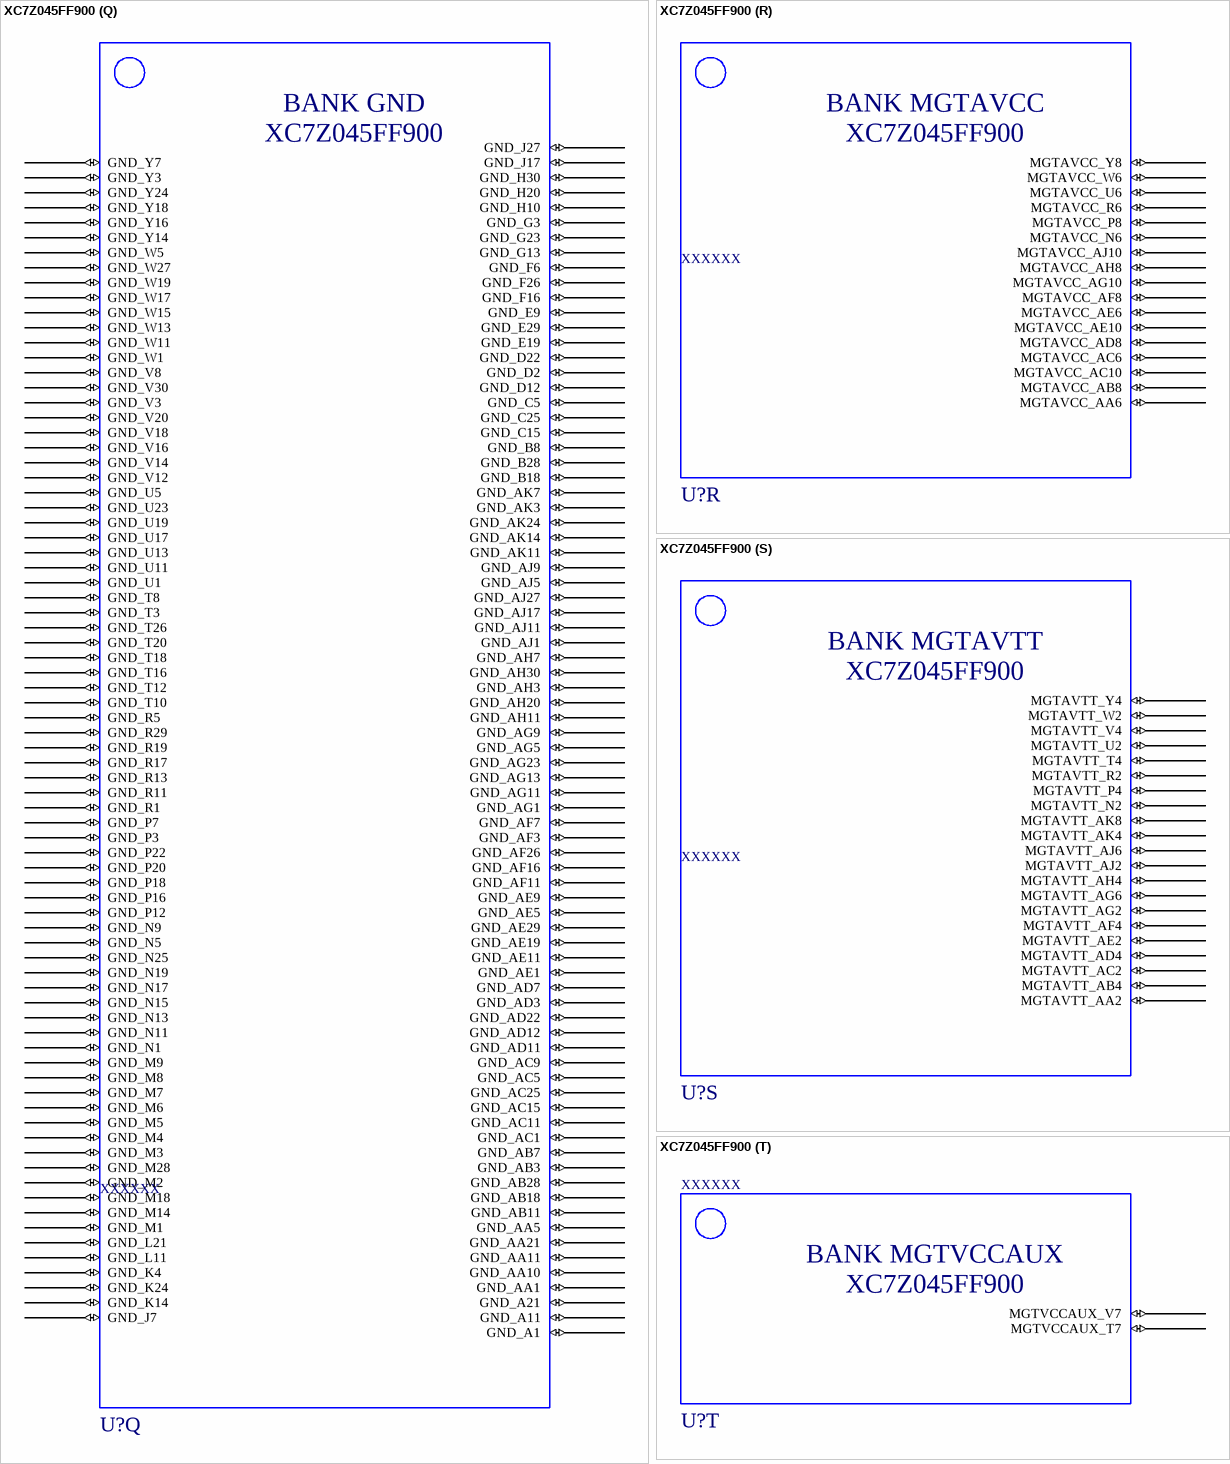
[diagram p19: symbol XC7Z045FF900]

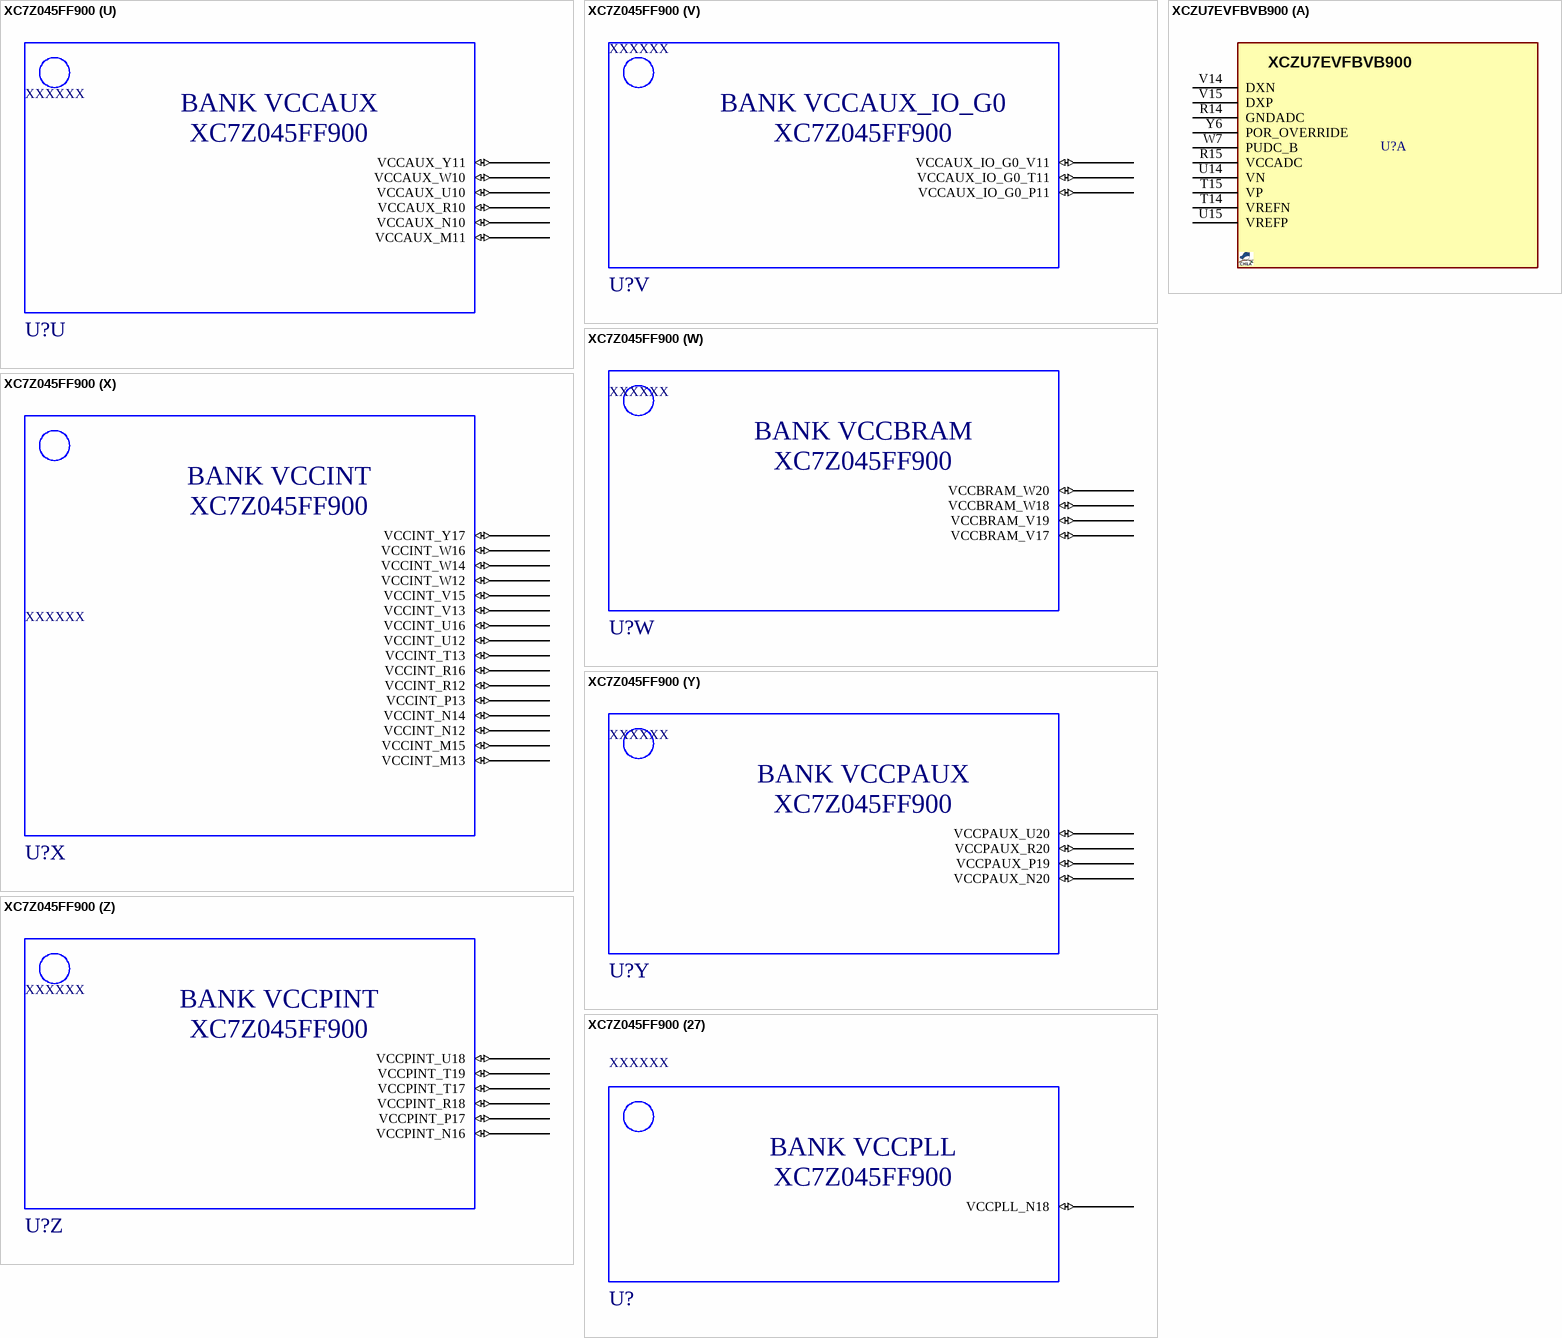
[diagram p20: symbols XC7Z045FF900 to XCZU7EVFBVB900]

## XC7Z045FF900
designator U?, comment XXXXXX
MANF: Xilinx; MANF_P#: XC7Z045FF900A; VALUE: XC7Z045FF900A; DATE: 2012_02_18
part A pins: AA9 DONE_0_AA9 (io), AA12 RSVDGND_AA12 (io), P9 VCCBATT_0_P9 (io), P10 TDI_0_P10 (io), P14 GNDADC_0_P14 (io), P15 VCCADC_0_P15 (io), R9 RSVDVCC_R9 (io), R14 VREFN_0_R14 (io), R15 VP_0_R15 (io), T9 RSVDVCC_T9 (io), T14 VN_0_T14 (io), T15 VREFP_0_T15 (io), U9 RSVDVCC_U9 (io), U14 DXN_0_U14 (io), U15 DXP_0_U15 (io), V9 CFGBVS_0_V9 (io), V10 TMS_0_V10 (io), W9 INIT_B_0_W9 (io), Y9 PROGRAM_B_0_Y9 (io), Y10 TDO_0_Y10 (io), Y12 TCK_0_Y12 (io), Y13 VCCO_0_Y13 (io), Y15 VCCO_0_Y15 (io)
part B pins: AA13 IO_0_10_AA13 (io), AA14 IO_L20N_T3_10_AA14 (io), AA15 IO_L20P_T3_10_AA15 (io), AA16 VCCO_10_AA16 (io), AA17 IO_25_10_AA17 (io), AB12 IO_L21P_T3_DQS_10_AB12 (io), AB13 VCCO_10_AB13 (io), AB14 IO_L22N_T3_10_AB14 (io), AB15 IO_L22P_T3_10_AB15 (io), AB16 IO_L24N_T3_10_AB16 (io), AB17 IO_L24P_T3_10_AB17 (io), AC12 IO_L21N_T3_DQS_10_AC12 (io), AC13 IO_L19N_T3_VREF_10_AC13 (io), AC14 IO_L19P_T3_10_AC14 (io), AC16 IO_L23N_T3_10_AC16 (io), AC17 IO_L23P_T3_10_AC17 (io), AD13 IO_L9N_T1_DQS_10_AD13 (io), AD14 IO_L9P_T1_DQS_10_AD14 (io), AD15 IO_L18N_T2_10_AD15 (io), AD16 IO_L18P_T2_10_AD16 (io), AD17 VCCO_10_AD17 (io), AE12 IO_L7P_T1_10_AE12 (io), AE13 IO_L11P_T1_SRCC_10_AE13 (io), AE14 VCCO_10_AE14 (io), AE15 IO_L16N_T2_10_AE15 (io), AE16 IO_L16P_T2_10_AE16 (io), AE17 IO_L17N_T2_10_AE17 (io), AE18 IO_L17P_T2_10_AE18 (io), AF12 IO_L7N_T1_10_AF12 (io), AF13 IO_L11N_T1_SRCC_10_AF13 (io), AF14 IO_L12P_T1_MRCC_10_AF14 (io), AF15 IO_L14P_T2_SRCC_10_AF15 (io), AF17 IO_L15N_T2_DQS_10_AF17 (io), AF18 IO_L15P_T2_DQS_10_AF18 (io), AG12 IO_L10P_T1_10_AG12 (io), AG14 IO_L12N_T1_MRCC_10_AG14 (io), AG15 IO_L14N_T2_SRCC_10_AG15 (io), AG16 IO_L13N_T2_MRCC_10_AG16 (io), AG17 IO_L13P_T2_MRCC_10_AG17 (io), AG18 VCCO_10_AG18 (io), AH12 IO_L10N_T1_10_AH12 (io), AH13 IO_L8N_T1_10_AH13 (io), AH14 IO_L8P_T1_10_AH14 (io), AH15 VCCO_10_AH15 (io), AH16 IO_L6N_T0_VREF_10_AH16 (io), AH17 IO_L6P_T0_10_AH17 (io), AH18 IO_L2P_T0_10_AH18 (io), AJ12 VCCO_10_AJ12 (io), AJ13 IO_L3N_T0_DQS_10_AJ13 (io), AJ14 IO_L3P_T0_DQS_10_AJ14 (io), AJ15 IO_L5P_T0_10_AJ15 (io), AJ16 IO_L4P_T0_10_AJ16 (io), AJ18 IO_L2N_T0_10_AJ18 (io), AK12 IO_L1N_T0_10_AK12 (io), AK13 IO_L1P_T0_10_AK13 (io), AK15 IO_L5N_T0_10_AK15 (io), AK16 IO_L4N_T0_10_AK16 (io)
part C pins: AD9 MGTREFCLK0N_109_AD9 (io), AD10 MGTREFCLK0P_109_AD10 (io), AE7 MGTXRXN3_109_AE7 (io), AE8 MGTXRXP3_109_AE8 (io), AF9 MGTREFCLK1N_109_AF9 (io), AF10 MGTREFCLK1P_109_AF10 (io), AG7 MGTXRXN2_109_AG7 (io), AG8 MGTXRXP2_109_AG8 (io), AH9 MGTXRXN0_109_AH9 (io), AH10 MGTXRXP0_109_AH10 (io), AJ3 MGTXTXN2_109_AJ3 (io), AJ4 MGTXTXP2_109_AJ4 (io), AJ7 MGTXRXN1_109_AJ7 (io), AJ8 MGTXRXP1_109_AJ8 (io), AK1 MGTXTXN3_109_AK1 (io), AK2 MGTXTXP3_109_AK2 (io), AK5 MGTXTXN1_109_AK5 (io), AK6 MGTXTXP1_109_AK6 (io), AK9 MGTXTXN0_109_AK9 (io), AK10 MGTXTXP0_109_AK10 (io)
part D pins: AA22 IO_L23P_T3_11_AA22 (io), AA23 IO_L23N_T3_11_AA23 (io), AA24 IO_L22P_T3_11_AA24 (io), AB21 IO_L19P_T3_11_AB21 (io), AB22 IO_L19N_T3_VREF_11_AB22 (io), AB23 VCCO_11_AB23 (io), AB24 IO_L22N_T3_11_AB24 (io), AC21 IO_25_11_AC21 (io), AC22 IO_L24P_T3_11_AC22 (io), AC23 IO_L24N_T3_11_AC23 (io), AC24 IO_L7P_T1_11_AC24 (io), AD21 IO_L10P_T1_11_AD21 (io), AD23 IO_L11P_T1_SRCC_11_AD23 (io), AD24 IO_L7N_T1_11_AD24 (io), AE21 IO_L10N_T1_11_AE21 (io), AE22 IO_L12P_T1_MRCC_11_AE22 (io), AE23 IO_L11N_T1_SRCC_11_AE23 (io), AE24 VCCO_11_AE24 (io), AF19 IO_L18P_T2_11_AF19 (io), AF20 IO_L14P_T2_SRCC_11_AF20 (io), AF21 VCCO_11_AF21 (io), AF22 IO_L12N_T1_MRCC_11_AF22 (io), AF23 IO_L9P_T1_DQS_11_AF23 (io), AF24 IO_L9N_T1_DQS_11_AF24 (io), AG19 IO_L18N_T2_11_AG19 (io), AG20 IO_L14N_T2_SRCC_11_AG20 (io), AG21 IO_L13P_T2_MRCC_11_AG21 (io), AG22 IO_L6P_T0_11_AG22 (io), AG24 IO_L8P_T1_11_AG24 (io), AG25 IO_L8N_T1_11_AG25 (io), AH19 IO_L17P_T2_11_AH19 (io), AH21 IO_L13N_T2_MRCC_11_AH21 (io), AH22 IO_L6N_T0_VREF_11_AH22 (io), AH23 IO_L5P_T0_11_AH23 (io), AH24 IO_L5N_T0_11_AH24 (io), AH25 VCCO_11_AH25 (io), AJ19 IO_L17N_T2_11_AJ19 (io), AJ20 IO_L15P_T2_DQS_11_AJ20 (io), AJ21 IO_L3P_T0_DQS_11_AJ21 (io), AJ22 VCCO_11_AJ22 (io), AJ23 IO_L4P_T0_11_AJ23 (io), AJ24 IO_L4N_T0_11_AJ24 (io), AJ25 IO_L1P_T0_11_AJ25 (io), AK17 IO_L16P_T2_11_AK17 (io), AK18 IO_L16N_T2_11_AK18 (io), AK19 VCCO_11_AK19 (io), AK20 IO_L15N_T2_DQS_11_AK20 (io), AK21 IO_L3N_T0_DQS_11_AK21 (io), AK22 IO_L2P_T0_11_AK22 (io), AK23 IO_L2N_T0_11_AK23 (io), AK25 IO_L1N_T0_11_AK25 (io), W21 IO_L20P_T3_11_W21 (io), W22 VCCO_11_W22 (io), W23 IO_0_11_W23 (io), Y21 IO_L20N_T3_11_Y21 (io), Y22 IO_L21P_T3_DQS_11_Y22 (io), Y23 IO_L21N_T3_DQS_11_Y23 (io)
part E pins: AA7 MGTREFCLK0N_110_AA7 (io), AA8 MGTREFCLK0P_110_AA8 (io), AC7 MGTREFCLK1N_110_AC7 (io), AC8 MGTREFCLK1P_110_AC8 (io), AD1 MGTXTXN3_110_AD1 (io), AD2 MGTXTXP3_110_AD2 (io), AD5 MGTXRXN3_110_AD5 (io), AD6 MGTXRXP3_110_AD6 (io), AE3 MGTXTXN2_110_AE3 (io), AE4 MGTXTXP2_110_AE4 (io), AF1 MGTXTXN1_110_AF1 (io), AF2 MGTXTXP1_110_AF2 (io), AF5 MGTXRXN2_110_AF5 (io), AF6 MGTXRXP2_110_AF6 (io), AG3 MGTXRXN1_110_AG3 (io), AG4 MGTXRXP1_110_AG4 (io), AH1 MGTXTXN0_110_AH1 (io), AH2 MGTXTXP0_110_AH2 (io), AH5 MGTXRXN0_110_AH5 (io), AH6 MGTXRXP0_110_AH6 (io)
part F pins: AA3 MGTXRXN3_111_AA3 (io), AA4 MGTXRXP3_111_AA4 (io), AB1 MGTXTXN0_111_AB1 (io), AB2 MGTXTXP0_111_AB2 (io), AB5 MGTXRXN1_111_AB5 (io), AB6 MGTXRXP1_111_AB6 (io), AC3 MGTXRXN0_111_AC3 (io), AC4 MGTXRXP0_111_AC4 (io), U7 MGTREFCLK0N_111_U7 (io), U8 MGTREFCLK0P_111_U8 (io), V1 MGTXTXN3_111_V1 (io), V2 MGTXTXP3_111_V2 (io), W3 MGTXTXN2_111_W3 (io), W4 MGTXTXP2_111_W4 (io), W7 MGTREFCLK1N_111_W7 (io), W8 MGTREFCLK1P_111_W8 (io), Y1 MGTXTXN1_111_Y1 (io), Y2 MGTXTXP1_111_Y2 (io), Y5 MGTXRXN2_111_Y5 (io), Y6 MGTXRXP2_111_Y6 (io)
part G pins: AB9 MGTRREF_112_AB9 (io), AB10 MGTAVTTRCAL_112_AB10 (io), N3 MGTXTXN3_112_N3 (io), N4 MGTXTXP3_112_N4 (io), N7 MGTREFCLK0N_112_N7 (io), N8 MGTREFCLK0P_112_N8 (io), P1 MGTXTXN2_112_P1 (io), P2 MGTXTXP2_112_P2 (io), P5 MGTXRXN3_112_P5 (io), P6 MGTXRXP3_112_P6 (io), R3 MGTXTXN1_112_R3 (io), R4 MGTXTXP1_112_R4 (io), R7 MGTREFCLK1N_112_R7 (io), R8 MGTREFCLK1P_112_R8 (io), T1 MGTXTXN0_112_T1 (io), T2 MGTXTXP0_112_T2 (io), T5 MGTXRXN2_112_T5 (io), T6 MGTXRXP2_112_T6 (io), U3 MGTXRXN1_112_U3 (io), U4 MGTXRXP1_112_U4 (io), V5 MGTXRXN0_112_V5 (io), V6 MGTXRXP0_112_V6 (io)
part H pins: AA25 IO_25_12_AA25 (io), AA26 VCCO_12_AA26 (io), AA27 IO_L5P_T0_12_AA27 (io), AA28 IO_L5N_T0_12_AA28 (io), AA29 IO_L4N_T0_12_AA29 (io), AA30 IO_L1N_T0_12_AA30 (io), AB25 IO_L6P_T0_12_AB25 (io), AB26 IO_L6N_T0_VREF_12_AB26 (io), AB27 IO_L11P_T1_SRCC_12_AB27 (io), AB29 IO_L2P_T0_12_AB29 (io), AB30 IO_L2N_T0_12_AB30 (io), AC26 IO_L7P_T1_12_AC26 (io), AC27 IO_L11N_T1_SRCC_12_AC27 (io), AC28 IO_L12P_T1_MRCC_12_AC28 (io), AC29 IO_L9P_T1_DQS_12_AC29 (io), AC30 VCCO_12_AC30 (io), AD25 IO_L10P_T1_12_AD25 (io), AD26 IO_L7N_T1_12_AD26 (io), AD27 VCCO_12_AD27 (io), AD28 IO_L12N_T1_MRCC_12_AD28 (io), AD29 IO_L9N_T1_DQS_12_AD29 (io), AD30 IO_L8P_T1_12_AD30 (io), AE25 IO_L18P_T2_12_AE25 (io), AE26 IO_L10N_T1_12_AE26 (io), AE27 IO_L14P_T2_SRCC_12_AE27 (io), AE28 IO_L13P_T2_MRCC_12_AE28 (io), AE30 IO_L8N_T1_12_AE30 (io), AF25 IO_L18N_T2_12_AF25 (io), AF27 IO_L14N_T2_SRCC_12_AF27 (io), AF28 IO_L13N_T2_MRCC_12_AF28 (io), AF29 IO_L15P_T2_DQS_12_AF29 (io), AF30 IO_L16P_T2_12_AF30 (io), AG26 IO_L17P_T2_12_AG26 (io), AG27 IO_L17N_T2_12_AG27 (io), AG28 VCCO_12_AG28 (io), AG29 IO_L15N_T2_DQS_12_AG29 (io), AG30 IO_L16N_T2_12_AG30 (io), AH26 IO_L23P_T3_12_AH26 (io), AH27 IO_L23N_T3_12_AH27 (io), AH28 IO_L19P_T3_12_AH28 (io), AH29 IO_L19N_T3_VREF_12_AH29 (io), AJ26 IO_L24P_T3_12_AJ26 (io), AJ28 IO_L21P_T3_DQS_12_AJ28 (io), AJ29 IO_L21N_T3_DQS_12_AJ29 (io), AJ30 IO_L20P_T3_12_AJ30 (io), AK26 IO_L24N_T3_12_AK26 (io), AK27 IO_L22P_T3_12_AK27 (io), AK28 IO_L22N_T3_12_AK28 (io), AK29 VCCO_12_AK29 (io), AK30 IO_L20N_T3_12_AK30 (io), Y25 IO_0_12_Y25 (io), Y26 IO_L3P_T0_DQS_12_Y26 (io), Y27 IO_L3N_T0_DQS_12_Y27 (io), Y28 IO_L4P_T0_12_Y28 (io), Y29 VCCO_12_Y29 (io), Y30 IO_L1P_T0_12_Y30 (io)
part I pins: N26 IO_L15P_T2_DQS_13_N26 (io), N27 IO_L15N_T2_DQS_13_N27 (io), N28 IO_L3P_T0_DQS_13_N28 (io), N29 IO_L4P_T0_13_N29 (io), N30 VCCO_13_N30 (io), P21 IO_L19P_T3_13_P21 (io), P23 IO_L18P_T2_13_P23 (io), P24 IO_L18N_T2_13_P24 (io), P25 IO_L16P_T2_13_P25 (io), P26 IO_L16N_T2_13_P26 (io), P27 VCCO_13_P27 (io), P28 IO_L3N_T0_DQS_13_P28 (io), P29 IO_L4N_T0_13_P29 (io), P30 IO_L1P_T0_13_P30 (io), R21 IO_L19N_T3_VREF_13_R21 (io), R22 IO_L21P_T3_DQS_13_R22 (io), R23 IO_L21N_T3_DQS_13_R23 (io), R24 VCCO_13_R24 (io), R25 IO_L13P_T2_MRCC_13_R25 (io), R26 IO_L13N_T2_MRCC_13_R26 (io), R27 IO_L14P_T2_SRCC_13_R27 (io), R28 IO_L6P_T0_13_R28 (io), R30 IO_L1N_T0_13_R30 (io), T21 VCCO_13_T21 (io), T22 IO_L20P_T3_13_T22 (io), T23 IO_L20N_T3_13_T23 (io), T24 IO_L17P_T2_13_T24 (io), T25 IO_L17N_T2_13_T25 (io), T27 IO_L14N_T2_SRCC_13_T27 (io), T28 IO_L6N_T0_VREF_13_T28 (io), T29 IO_L5P_T0_13_T29 (io), T30 IO_L2P_T0_13_T30 (io), U21 IO_0_13_U21 (io), U22 IO_L22P_T3_13_U22 (io), U24 IO_L23P_T3_13_U24 (io), U25 IO_L11P_T1_SRCC_13_U25 (io), U26 IO_L12P_T1_MRCC_13_U26 (io), U27 IO_L12N_T1_MRCC_13_U27 (io), U28 VCCO_13_U28 (io), U29 IO_L5N_T0_13_U29 (io), U30 IO_L2N_T0_13_U30 (io), V21 IO_25_13_V21 (io), V22 IO_L22N_T3_13_V22 (io), V23 IO_L24P_T3_13_V23 (io), V24 IO_L23N_T3_13_V24 (io), V25 VCCO_13_V25 (io), V26 IO_L11N_T1_SRCC_13_V26 (io), V27 IO_L9P_T1_DQS_13_V27 (io), V28 IO_L7P_T1_13_V28 (io), V29 IO_L7N_T1_13_V29 (io), W24 IO_L24N_T3_13_W24 (io), W25 IO_L10P_T1_13_W25 (io), W26 IO_L10N_T1_13_W26 (io), W28 IO_L9N_T1_DQS_13_W28 (io), W29 IO_L8P_T1_13_W29 (io), W30 IO_L8N_T1_13_W30 (io)
part J pins: A2 IO_L24N_T3_33_A2 (io), A3 IO_L24P_T3_33_A3 (io), A4 IO_L21N_T3_DQS_33_A4 (io), A5 IO_L21P_T3_DQS_33_A5 (io), B1 IO_L23N_T3_33_B1 (io), B2 IO_L23P_T3_33_B2 (io), B3 VCCO_33_B3 (io), B4 IO_L20N_T3_33_B4 (io), B5 IO_L20P_T3_33_B5 (io), C1 IO_L22N_T3_33_C1 (io), C2 IO_L22P_T3_33_C2 (io), C3 IO_L19N_T3_VREF_33_C3 (io), C4 IO_L19P_T3_33_C4 (io), D1 IO_L18N_T2_33_D1 (io), D3 IO_L16N_T2_33_D3 (io), D4 IO_L16P_T2_33_D4 (io), D5 IO_L15N_T2_DQS_33_D5 (io), E1 IO_L18P_T2_33_E1 (io), E2 IO_L17N_T2_33_E2 (io), E3 IO_L17P_T2_33_E3 (io), E4 VCCO_33_E4 (io), E5 IO_L13N_T2_MRCC_33_E5 (io), E6 IO_L15P_T2_DQS_33_E6 (io), F1 VCCO_33_F1 (io), F2 IO_L7N_T1_33_F2 (io), F3 IO_L14N_T2_SRCC_33_F3 (io), F4 IO_L14P_T2_SRCC_33_F4 (io), F5 IO_L13P_T2_MRCC_33_F5 (io), G1 IO_L10N_T1_33_G1 (io), G2 IO_L7P_T1_33_G2 (io), G4 IO_L12N_T1_MRCC_33_G4 (io), G5 IO_L12P_T1_MRCC_33_G5 (io), G6 IO_L8N_T1_33_G6 (io), H1 IO_L9N_T1_DQS_33_H1 (io), H2 IO_L10P_T1_33_H2 (io), H3 IO_L11N_T1_SRCC_33_H3 (io), H4 IO_L11P_T1_SRCC_33_H4 (io), H5 VCCO_33_H5 (io), H6 IO_L8P_T1_33_H6 (io), J1 IO_L9P_T1_DQS_33_J1 (io), J2 VCCO_33_J2 (io), J3 IO_L1N_T0_33_J3 (io), J4 IO_L1P_T0_33_J4 (io), J5 IO_L5N_T0_33_J5 (io), J6 IO_L6N_T0_VREF_33_J6 (io), K1 IO_L2N_T0_33_K1 (io), K2 IO_L3N_T0_DQS_33_K2 (io), K3 IO_L3P_T0_DQS_33_K3 (io), K5 IO_L5P_T0_33_K5 (io), K6 IO_L6P_T0_33_K6 (io), L1 IO_L2P_T0_33_L1 (io), L2 IO_L4N_T0_33_L2 (io), L3 IO_L4P_T0_33_L3 (io), L4 IO_25_VRP_33_L4 (io), L5 IO_0_VRN_33_L5 (io), L6 VCCO_33_L6 (io)
part K pins: A6 VCCO_34_A6 (io), A7 IO_L3N_T0_DQS_34_A7 (io), A8 IO_L3P_T0_DQS_PUDC_B_34_A8 (io), A9 IO_L2N_T0_34_A9 (io), A10 IO_L1N_T0_34_A10 (io), B6 IO_L5N_T0_34_B6 (io), B7 IO_L4N_T0_34_B7 (io), B9 IO_L2P_T0_34_B9 (io), B10 IO_L1P_T0_34_B10 (io), C6 IO_L5P_T0_34_C6 (io), C7 IO_L4P_T0_34_C7 (io), C8 IO_L6N_T0_VREF_34_C8 (io), C9 IO_L6P_T0_34_C9 (io), C10 VCCO_34_C10 (io), D6 IO_L17N_T2_34_D6 (io), D7 VCCO_34_D7 (io), D8 IO_L12N_T1_MRCC_34_D8 (io), D9 IO_L12P_T1_MRCC_34_D9 (io), D10 IO_L10N_T1_34_D10 (io), D11 IO_L8N_T1_34_D11 (io), E7 IO_L17P_T2_34_E7 (io), E8 IO_L14N_T2_SRCC_34_E8 (io), E10 IO_L10P_T1_34_E10 (io), E11 IO_L8P_T1_34_E11 (io), F7 IO_L16N_T2_34_F7 (io), F8 IO_L16P_T2_34_F8 (io), F9 IO_L14P_T2_SRCC_34_F9 (io), F10 IO_L11N_T1_SRCC_34_F10 (io), F11 VCCO_34_F11 (io), G7 IO_L18N_T2_34_G7 (io), G8 VCCO_34_G8 (io), G9 IO_L13N_T2_MRCC_34_G9 (io), G10 IO_L11P_T1_SRCC_34_G10 (io), G11 IO_L9N_T1_DQS_34_G11 (io), H7 IO_L18P_T2_34_H7 (io), H8 IO_L15N_T2_DQS_34_H8 (io), H9 IO_L13P_T2_MRCC_34_H9 (io), H11 IO_L7N_T1_34_H11 (io), H12 IO_L9P_T1_DQS_34_H12 (io), J8 IO_L15P_T2_DQS_34_J8 (io), J9 IO_L20N_T3_34_J9 (io), J10 IO_L20P_T3_34_J10 (io), J11 IO_L7P_T1_34_J11 (io), J12 VCCO_34_J12 (io), K7 IO_L19N_T3_VREF_34_K7 (io), K8 IO_L21N_T3_DQS_34_K8 (io), K9 VCCO_34_K9 (io), K10 IO_L22N_T3_34_K10 (io), K11 IO_L22P_T3_34_K11 (io), K12 IO_L24N_T3_34_K12 (io), L7 IO_L19P_T3_34_L7 (io), L8 IO_L21P_T3_DQS_34_L8 (io), L9 IO_L23N_T3_34_L9 (io), L10 IO_L23P_T3_34_L10 (io), L12 IO_L24P_T3_34_L12 (io), M10 IO_25_VRP_34_M10 (io), M12 IO_0_VRN_34_M12 (io)
part L pins: A12 IO_L24N_T3_AD15N_35_A12 (io), A13 IO_L24P_T3_AD15P_35_A13 (io), A14 IO_L23N_T3_35_A14 (io), A15 IO_L21N_T3_DQS_AD14N_35_A15 (io), A16 VCCO_35_A16 (io), A17 IO_L18N_T2_AD13N_35_A17 (io), B11 IO_L22N_T3_AD7N_35_B11 (io), B12 IO_L20N_T3_AD6N_35_B12 (io), B13 VCCO_35_B13 (io), B14 IO_L23P_T3_35_B14 (io), B15 IO_L21P_T3_DQS_AD14P_35_B15 (io), B16 IO_L17N_T2_AD5N_35_B16 (io), B17 IO_L18P_T2_AD13P_35_B17 (io), C11 IO_L22P_T3_AD7P_35_C11 (io), C12 IO_L20P_T3_AD6P_35_C12 (io), C13 IO_L19N_T3_VREF_35_C13 (io), C14 IO_L19P_T3_35_C14 (io), C16 IO_L16N_T2_35_C16 (io), C17 IO_L17P_T2_AD5P_35_C17 (io), D13 IO_L11N_T1_SRCC_35_D13 (io), D14 IO_L14N_T2_AD4N_SRCC_35_D14 (io), D15 IO_L14P_T2_AD4P_SRCC_35_D15 (io), D16 IO_L16P_T2_35_D16 (io), D17 VCCO_35_D17 (io), E12 IO_L10N_T1_AD11N_35_E12 (io), E13 IO_L11P_T1_SRCC_35_E13 (io), E14 VCCO_35_E14 (io), E15 IO_L13N_T2_MRCC_35_E15 (io), E16 IO_L13P_T2_MRCC_35_E16 (io), E17 IO_L15N_T2_DQS_AD12N_35_E17 (io), F12 IO_L9N_T1_DQS_AD3N_35_F12 (io), F13 IO_L10P_T1_AD11P_35_F13 (io), F14 IO_L12N_T1_MRCC_35_F14 (io), F15 IO_L12P_T1_MRCC_35_F15 (io), F17 IO_L15P_T2_DQS_AD12P_35_F17 (io), G12 IO_L9P_T1_DQS_AD3P_35_G12 (io), G14 IO_L8N_T1_AD10N_35_G14 (io), G15 IO_L8P_T1_AD10P_35_G15 (io), G16 IO_L7N_T1_AD2N_35_G16 (io), G17 IO_L7P_T1_AD2P_35_G17 (io), H13 IO_L2N_T0_AD8N_35_H13 (io), H14 IO_L4N_T0_35_H14 (io), H15 VCCO_35_H15 (io), H16 IO_L6N_T0_VREF_35_H16 (io), J13 IO_L2P_T0_AD8P_35_J13 (io), J14 IO_L4P_T0_35_J14 (io), J15 IO_L5N_T0_AD9N_35_J15 (io), J16 IO_L6P_T0_35_J16 (io), K13 IO_L3N_T0_DQS_AD1N_35_K13 (io), K15 IO_L5P_T0_AD9P_35_K15 (io), K16 IO_0_VRN_35_K16 (io), L13 IO_L3P_T0_DQS_AD1P_35_L13 (io), L14 IO_L1N_T0_AD0N_35_L14 (io), L15 IO_L1P_T0_AD0P_35_L15 (io), L16 VCCO_35_L16 (io), M16 IO_25_VRP_35_M16 (io)
part M pins: A22 PS_CLK_500_A22 (io), A23 PS_MIO11_500_A23 (io), A24 PS_MIO9_500_A24 (io), B22 PS_MIO14_500_B22 (io), B23 VCCO_MIO0_500_B23 (io), B24 PS_MIO7_500_B24 (io), C21 PS_MIO8_500_C21 (io), C22 PS_MIO15_500_C22 (io), C23 PS_MIO3_500_C23 (io), C24 PS_MIO5_500_C24 (io), D21 PS_POR_B_500_D21 (io), D23 PS_MIO1_500_D23 (io), D24 PS_MIO6_500_D24 (io), E21 PS_MIO12_500_E21 (io), E22 PS_MIO10_500_E22 (io), E23 PS_MIO4_500_E23 (io), E24 VCCO_MIO0_500_E24 (io), F21 VCCO_MIO0_500_F21 (io), F22 PS_MIO13_500_F22 (io), F23 PS_MIO2_500_F23 (io), F24 PS_MIO0_500_F24 (io)
part N pins: A18 PS_MIO47_501_A18 (io), A19 PS_MIO50_501_A19 (io), A20 PS_MIO38_501_A20 (io), B19 PS_SRST_B_501_B19 (io), B20 PS_MIO40_501_B20 (io), B21 PS_MIO37_501_B21 (io), C18 PS_MIO53_501_C18 (io), C19 PS_MIO48_501_C19 (io), C20 VCCO_MIO1_501_C20 (io), D18 PS_MIO49_501_D18 (io), D19 PS_MIO52_501_D19 (io), D20 PS_MIO42_501_D20 (io), E18 PS_MIO43_501_E18 (io), E20 PS_MIO44_501_E20 (io), F18 PS_MIO39_501_F18 (io), F19 PS_MIO51_501_F19 (io), F20 PS_MIO46_501_F20 (io), G18 VCCO_MIO1_501_G18 (io), G19 PS_MIO25_501_G19 (io), G20 PS_MIO27_501_G20 (io), G21 PS_MIO35_501_G21 (io), G22 PS_MIO33_501_G22 (io), H17 PS_MIO36_501_H17 (io), H18 PS_MIO45_501_H18 (io), H19 PS_MIO_VREF_501_H19 (io), H21 PS_MIO31_501_H21 (io), H22 PS_MIO29_501_H22 (io), J18 PS_MIO41_501_J18 (io), J19 PS_MIO21_501_J19 (io), J20 PS_MIO19_501_J20 (io), J21 PS_MIO23_501_J21 (io), J22 VCCO_MIO1_501_J22 (io), K17 PS_MIO32_501_K17 (io), K18 PS_MIO34_501_K18 (io), K19 VCCO_MIO1_501_K19 (io), K20 PS_MIO18_501_K20 (io), K21 PS_MIO17_501_K21 (io), L17 PS_MIO28_501_L17 (io), L18 PS_MIO30_501_L18 (io), L19 PS_MIO16_501_L19 (io), L20 PS_MIO22_501_L20 (io), M17 PS_MIO26_501_M17 (io), M19 PS_MIO24_501_M19 (io), M20 PS_MIO20_501_M20 (io)
part O pins: A25 PS_DDR_DQ0_502_A25 (io), A26 VCCO_DDR_502_A26 (io), A27 PS_DDR_DQ9_502_A27 (io), A28 PS_DDR_DQ11_502_A28 (io), A29 PS_DDR_DQ8_502_A29 (io), A30 PS_DDR_DQ10_502_A30 (io), B25 PS_DDR_DQ4_502_B25 (io), B26 PS_DDR_DQS_N0_502_B26 (io), B27 PS_DDR_DQ2_502_B27 (io), B29 PS_DDR_DQS_N1_502_B29 (io), B30 PS_DDR_DM1_502_B30 (io), C26 PS_DDR_DQS_P0_502_C26 (io), C27 PS_DDR_DM0_502_C27 (io), C28 PS_DDR_DQ12_502_C28 (io), C29 PS_DDR_DQS_P1_502_C29 (io), C30 VCCO_DDR_502_C30 (io), D25 PS_DDR_DQ3_502_D25 (io), D26 PS_DDR_DQ6_502_D26 (io), D27 VCCO_DDR_502_D27 (io), D28 PS_DDR_DQ14_502_D28 (io), D29 PS_DDR_DQ15_502_D29 (io), D30 PS_DDR_DQ13_502_D30 (io), E25 PS_DDR_DQ1_502_E25 (io), E26 PS_DDR_DQ5_502_E26 (io), E27 PS_DDR_DQ7_502_E27 (io), E28 PS_DDR_DQ19_502_E28 (io), E30 PS_DDR_DQ20_502_E30 (io), F25 PS_DDR_DRST_B_502_F25 (io), F27 PS_DDR_A8_502_F27 (io), F28 PS_DDR_DQ21_502_F28 (io), F29 PS_DDR_DQS_N2_502_F29 (io), F30 PS_DDR_DQ23_502_F30 (io), G24 PS_DDR_A5_502_G24 (io), G25 PS_DDR_A3_502_G25 (io), G26 PS_DDR_A10_502_G26 (io), G27 PS_DDR_DQ17_502_G27 (io), G28 VCCO_DDR_502_G28 (io), G29 PS_DDR_DQS_P2_502_G29 (io), G30 PS_DDR_DQ22_502_G30 (io), H23 PS_DDR_A13_502_H23 (io), H24 PS_DDR_A11_502_H24 (io), H25 VCCO_DDR_502_H25 (io), H26 PS_DDR_A6_502_H26 (io), H27 PS_DDR_DQ16_502_H27 (io), H28 PS_DDR_DQ18_502_H28 (io), H29 PS_DDR_DM2_502_H29 (io), J23 PS_DDR_A9_502_J23 (io), J24 PS_DDR_A14_502_J24 (io), J25 PS_DDR_CKN_502_J25 (io), J26 PS_DDR_A4_502_J26 (io), J28 PS_DDR_DQ27_502_J28 (io), J29 PS_DDR_DQ24_502_J29 (io), J30 PS_DDR_DQ26_502_J30 (io), K22 PS_DDR_A7_502_K22 (io), K23 PS_DDR_A12_502_K23 (io), K25 PS_DDR_CKP_502_K25 (io), K26 PS_DDR_A1_502_K26 (io), K27 PS_DDR_DQ25_502_K27 (io), K28 PS_DDR_DM3_502_K28 (io), K29 VCCO_DDR_502_K29 (io), K30 PS_DDR_DQ28_502_K30 (io), L22 PS_DDR_VREF0_502_L22 (io), L23 PS_DDR_ODT_502_L23 (io), L24 PS_DDR_VREF1_502_L24 (io), L25 PS_DDR_A0_502_L25 (io), L26 VCCO_DDR_502_L26 (io), L27 PS_DDR_A2_502_L27 (io), L28 PS_DDR_DQS_P3_502_L28 (io), L29 PS_DDR_DQS_N3_502_L29 (io), L30 PS_DDR_DQ30_502_L30 (io), M21 PS_DDR_VRP_502_M21 (io), M22 PS_DDR_CKE_502_M22 (io), M23 VCCO_DDR_502_M23 (io), M24 PS_DDR_CAS_B_502_M24 (io), M25 PS_DDR_BA2_502_M25 (io), M26 PS_DDR_BA1_502_M26 (io), M27 PS_DDR_BA0_502_M27 (io), M29 PS_DDR_DQ29_502_M29 (io), M30 PS_DDR_DQ31_502_M30 (io), N21 PS_DDR_VRN_502_N21 (io), N22 PS_DDR_CS_B_502_N22 (io), N23 PS_DDR_WE_B_502_N23 (io), N24 PS_DDR_RAS_B_502_N24 (io)
part P pins: AA18 IO_L13P_T2_MRCC_9_AA18 (io), AA19 IO_L13N_T2_MRCC_9_AA19 (io), AA20 IO_L6N_T0_VREF_9_AA20 (io), AB19 IO_L14P_T2_SRCC_9_AB19 (io), AB20 IO_L14N_T2_SRCC_9_AB20 (io), AC18 IO_L11P_T1_SRCC_9_AC18 (io), AC19 IO_L11N_T1_SRCC_9_AC19 (io), AC20 VCCO_9_AC20 (io), AD18 IO_L12P_T1_MRCC_9_AD18 (io), AD19 IO_L12N_T1_MRCC_9_AD19 (io), AD20 IO_L19P_T3_9_AD20 (io), AE20 IO_L19N_T3_VREF_9_AE20 (io), Y19 VCCO_9_Y19 (io), Y20 IO_L6P_T0_9_Y20 (io)
part Q pins: A1 GND_A1 (io), A11 GND_A11 (io), A21 GND_A21 (io), AA1 GND_AA1 (io), AA5 GND_AA5 (io), AA10 GND_AA10 (io), AA11 GND_AA11 (io), AA21 GND_AA21 (io), AB3 GND_AB3 (io), AB7 GND_AB7 (io), AB11 GND_AB11 (io), AB18 GND_AB18 (io), AB28 GND_AB28 (io), AC1 GND_AC1 (io), AC5 GND_AC5 (io), AC9 GND_AC9 (io), AC11 GND_AC11 (io), AC15 GND_AC15 (io), AC25 GND_AC25 (io), AD3 GND_AD3 (io), AD7 GND_AD7 (io), AD11 GND_AD11 (io), AD12 GND_AD12 (io), AD22 GND_AD22 (io), AE1 GND_AE1 (io), AE5 GND_AE5 (io), AE9 GND_AE9 (io), AE11 GND_AE11 (io), AE19 GND_AE19 (io), AE29 GND_AE29 (io), AF3 GND_AF3 (io), AF7 GND_AF7 (io), AF11 GND_AF11 (io), AF16 GND_AF16 (io), AF26 GND_AF26 (io), AG1 GND_AG1 (io), AG5 GND_AG5 (io), AG9 GND_AG9 (io), AG11 GND_AG11 (io), AG13 GND_AG13 (io), AG23 GND_AG23 (io), AH3 GND_AH3 (io), AH7 GND_AH7 (io), AH11 GND_AH11 (io), AH20 GND_AH20 (io), AH30 GND_AH30 (io), AJ1 GND_AJ1 (io), AJ5 GND_AJ5 (io), AJ9 GND_AJ9 (io), AJ11 GND_AJ11 (io), AJ17 GND_AJ17 (io), AJ27 GND_AJ27 (io), AK3 GND_AK3 (io), AK7 GND_AK7 (io), AK11 GND_AK11 (io), AK14 GND_AK14 (io), AK24 GND_AK24 (io), B8 GND_B8 (io), B18 GND_B18 (io), B28 GND_B28 (io), C5 GND_C5 (io), C15 GND_C15 (io), C25 GND_C25 (io), D2 GND_D2 (io), D12 GND_D12 (io), D22 GND_D22 (io), E9 GND_E9 (io), E19 GND_E19 (io), E29 GND_E29 (io), F6 GND_F6 (io), F16 GND_F16 (io), F26 GND_F26 (io), G3 GND_G3 (io), G13 GND_G13 (io), G23 GND_G23 (io), H10 GND_H10 (io), H20 GND_H20 (io), H30 GND_H30 (io), J7 GND_J7 (io), J17 GND_J17 (io), J27 GND_J27 (io), K4 GND_K4 (io), K14 GND_K14 (io), K24 GND_K24 (io), L11 GND_L11 (io), L21 GND_L21 (io), M1 GND_M1 (io), M2 GND_M2 (io), M3 GND_M3 (io), M4 GND_M4 (io), M5 GND_M5 (io), M6 GND_M6 (io), M7 GND_M7 (io), M8 GND_M8 (io), M9 GND_M9 (io), M14 GND_M14 (io), M18 GND_M18 (io), M28 GND_M28 (io), N1 GND_N1 (io), N5 GND_N5 (io), N9 GND_N9 (io), N11 GND_N11 (io), N13 GND_N13 (io), N15 GND_N15 (io), N17 GND_N17 (io), N19 GND_N19 (io), N25 GND_N25 (io), P3 GND_P3 (io), P7 GND_P7 (io), P12 GND_P12 (io), P16 GND_P16 (io), P18 GND_P18 (io), P20 GND_P20 (io), P22 GND_P22 (io), R1 GND_R1 (io), R5 GND_R5 (io), R11 GND_R11 (io), R13 GND_R13 (io), R17 GND_R17 (io), R19 GND_R19 (io), R29 GND_R29 (io), T3 GND_T3 (io), T8 GND_T8 (io), T10 GND_T10 (io), T12 GND_T12 (io), T16 GND_T16 (io), T18 GND_T18 (io), T20 GND_T20 (io), T26 GND_T26 (io), U1 GND_U1 (io), U5 GND_U5 (io), U11 GND_U11 (io), U13 GND_U13 (io), U17 GND_U17 (io), U19 GND_U19 (io), U23 GND_U23 (io), V3 GND_V3 (io), V8 GND_V8 (io), V12 GND_V12 (io), V14 GND_V14 (io), V16 GND_V16 (io), V18 GND_V18 (io), V20 GND_V20 (io), V30 GND_V30 (io), W1 GND_W1 (io), W5 GND_W5 (io), W11 GND_W11 (io), W13 GND_W13 (io), W15 GND_W15 (io), W17 GND_W17 (io), W19 GND_W19 (io), W27 GND_W27 (io), Y3 GND_Y3 (io), Y7 GND_Y7 (io), Y14 GND_Y14 (io), Y16 GND_Y16 (io), Y18 GND_Y18 (io), Y24 GND_Y24 (io)
part R pins: AA6 MGTAVCC_AA6 (io), AB8 MGTAVCC_AB8 (io), AC6 MGTAVCC_AC6 (io), AC10 MGTAVCC_AC10 (io), AD8 MGTAVCC_AD8 (io), AE6 MGTAVCC_AE6 (io), AE10 MGTAVCC_AE10 (io), AF8 MGTAVCC_AF8 (io), AG10 MGTAVCC_AG10 (io), AH8 MGTAVCC_AH8 (io), AJ10 MGTAVCC_AJ10 (io), N6 MGTAVCC_N6 (io), P8 MGTAVCC_P8 (io), R6 MGTAVCC_R6 (io), U6 MGTAVCC_U6 (io), W6 MGTAVCC_W6 (io), Y8 MGTAVCC_Y8 (io)
part S pins: AA2 MGTAVTT_AA2 (io), AB4 MGTAVTT_AB4 (io), AC2 MGTAVTT_AC2 (io), AD4 MGTAVTT_AD4 (io), AE2 MGTAVTT_AE2 (io), AF4 MGTAVTT_AF4 (io), AG2 MGTAVTT_AG2 (io), AG6 MGTAVTT_AG6 (io), AH4 MGTAVTT_AH4 (io), AJ2 MGTAVTT_AJ2 (io), AJ6 MGTAVTT_AJ6 (io), AK4 MGTAVTT_AK4 (io), AK8 MGTAVTT_AK8 (io), N2 MGTAVTT_N2 (io), P4 MGTAVTT_P4 (io), R2 MGTAVTT_R2 (io), T4 MGTAVTT_T4 (io), U2 MGTAVTT_U2 (io), V4 MGTAVTT_V4 (io), W2 MGTAVTT_W2 (io), Y4 MGTAVTT_Y4 (io)
part T pins: T7 MGTVCCAUX_T7 (io), V7 MGTVCCAUX_V7 (io)
part U pins: M11 VCCAUX_M11 (io), N10 VCCAUX_N10 (io), R10 VCCAUX_R10 (io), U10 VCCAUX_U10 (io), W10 VCCAUX_W10 (io), Y11 VCCAUX_Y11 (io)
part V pins: P11 VCCAUX_IO_G0_P11 (io), T11 VCCAUX_IO_G0_T11 (io), V11 VCCAUX_IO_G0_V11 (io)
part W pins: V17 VCCBRAM_V17 (io), V19 VCCBRAM_V19 (io), W18 VCCBRAM_W18 (io), W20 VCCBRAM_W20 (io)
part X pins: M13 VCCINT_M13 (io), M15 VCCINT_M15 (io), N12 VCCINT_N12 (io), N14 VCCINT_N14 (io), P13 VCCINT_P13 (io), R12 VCCINT_R12 (io), R16 VCCINT_R16 (io), T13 VCCINT_T13 (io), U12 VCCINT_U12 (io), U16 VCCINT_U16 (io), V13 VCCINT_V13 (io), V15 VCCINT_V15 (io), W12 VCCINT_W12 (io), W14 VCCINT_W14 (io), W16 VCCINT_W16 (io), Y17 VCCINT_Y17 (io)
part Y pins: N20 VCCPAUX_N20 (io), P19 VCCPAUX_P19 (io), R20 VCCPAUX_R20 (io), U20 VCCPAUX_U20 (io)
part Z pins: N16 VCCPINT_N16 (io), P17 VCCPINT_P17 (io), R18 VCCPINT_R18 (io), T17 VCCPINT_T17 (io), T19 VCCPINT_T19 (io), U18 VCCPINT_U18 (io)
part 27 pins: N18 VCCPLL_N18 (io)
part A text: BANK 0
part B text: BANK 10
part C text: BANK 109
part D text: BANK 11
part E text: BANK 110
part F text: BANK 111
part G text: BANK 112
part H text: BANK 12
part I text: BANK 13
part J text: BANK 33
part K text: BANK 34
part L text: BANK 35
part M text: BANK 500
part N text: BANK 501
part O text: BANK 502
part P text: BANK 9
part Q text: BANK GND
part R text: BANK MGTAVCC
part S text: BANK MGTAVTT
part T text: BANK MGTVCCAUX
part U text: BANK VCCAUX
part V text: BANK VCCAUX_IO_G0
part W text: BANK VCCBRAM
part X text: BANK VCCINT
part Y text: BANK VCCPAUX
part Z text: BANK VCCPINT
part 27 text: BANK VCCPLL

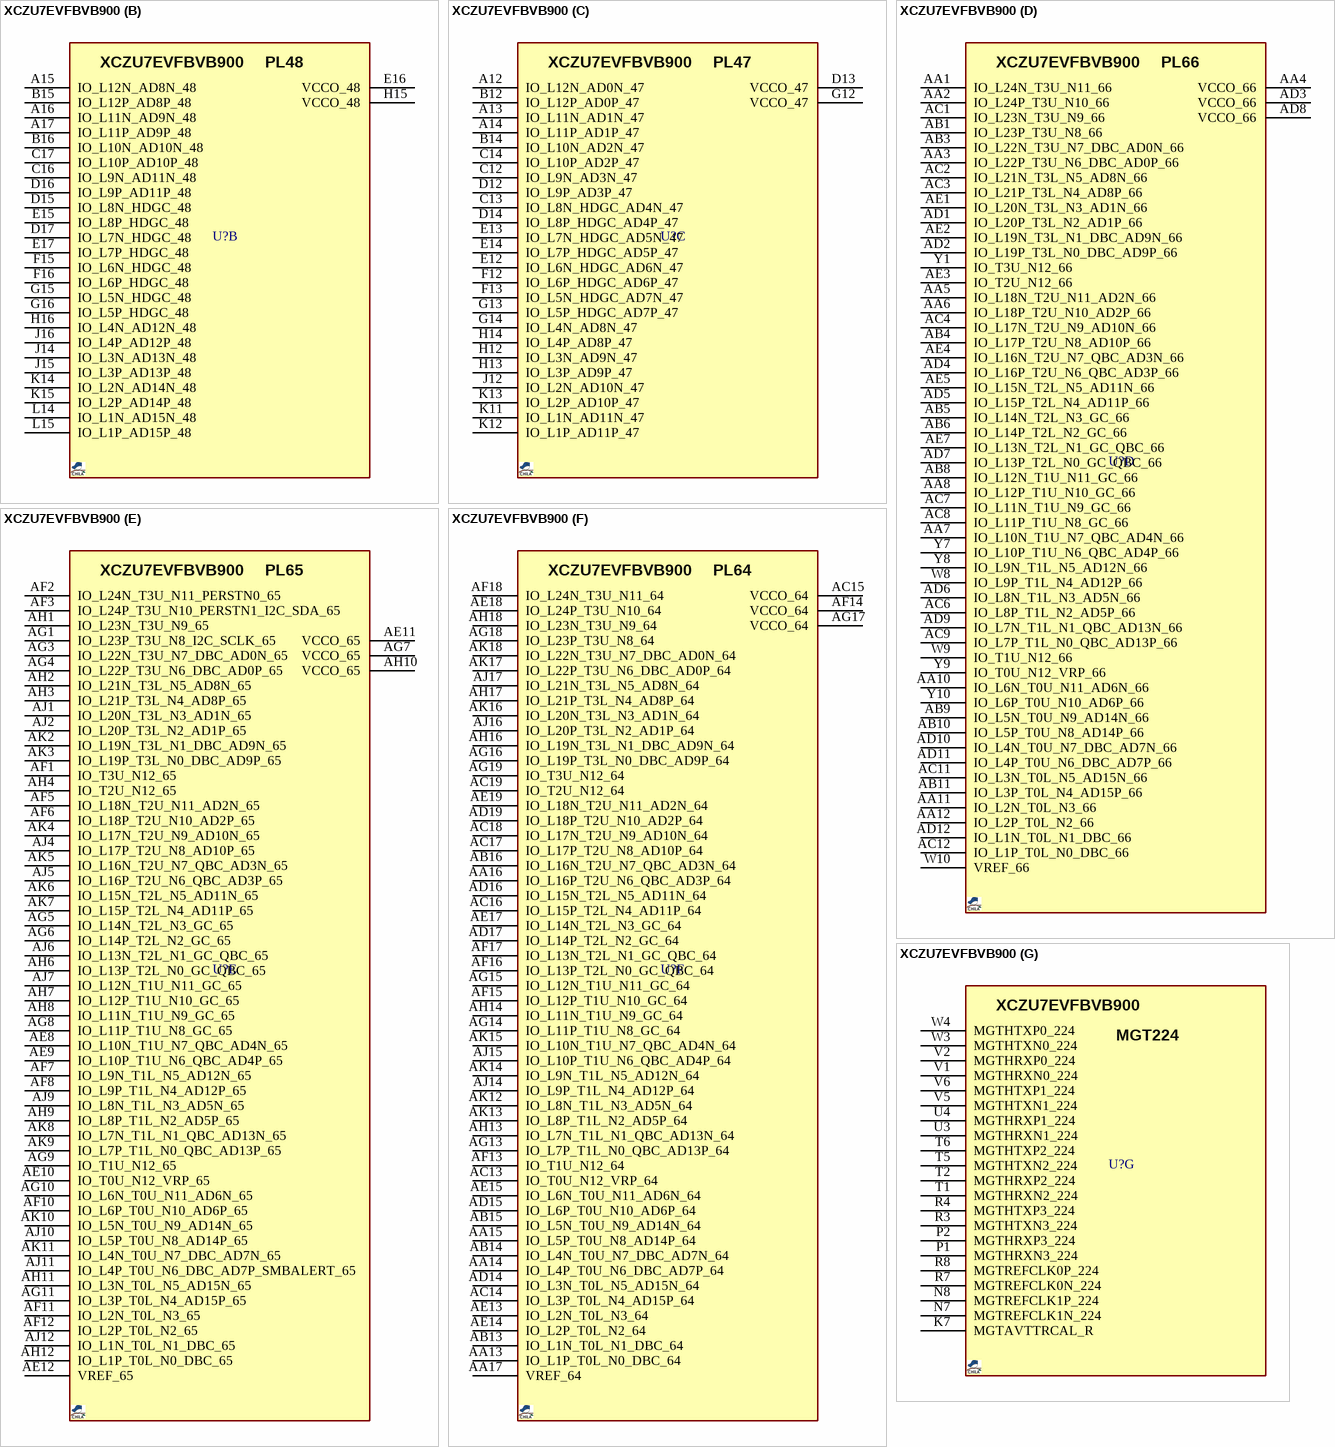
[diagram p21: symbol XCZU7EVFBVB900]

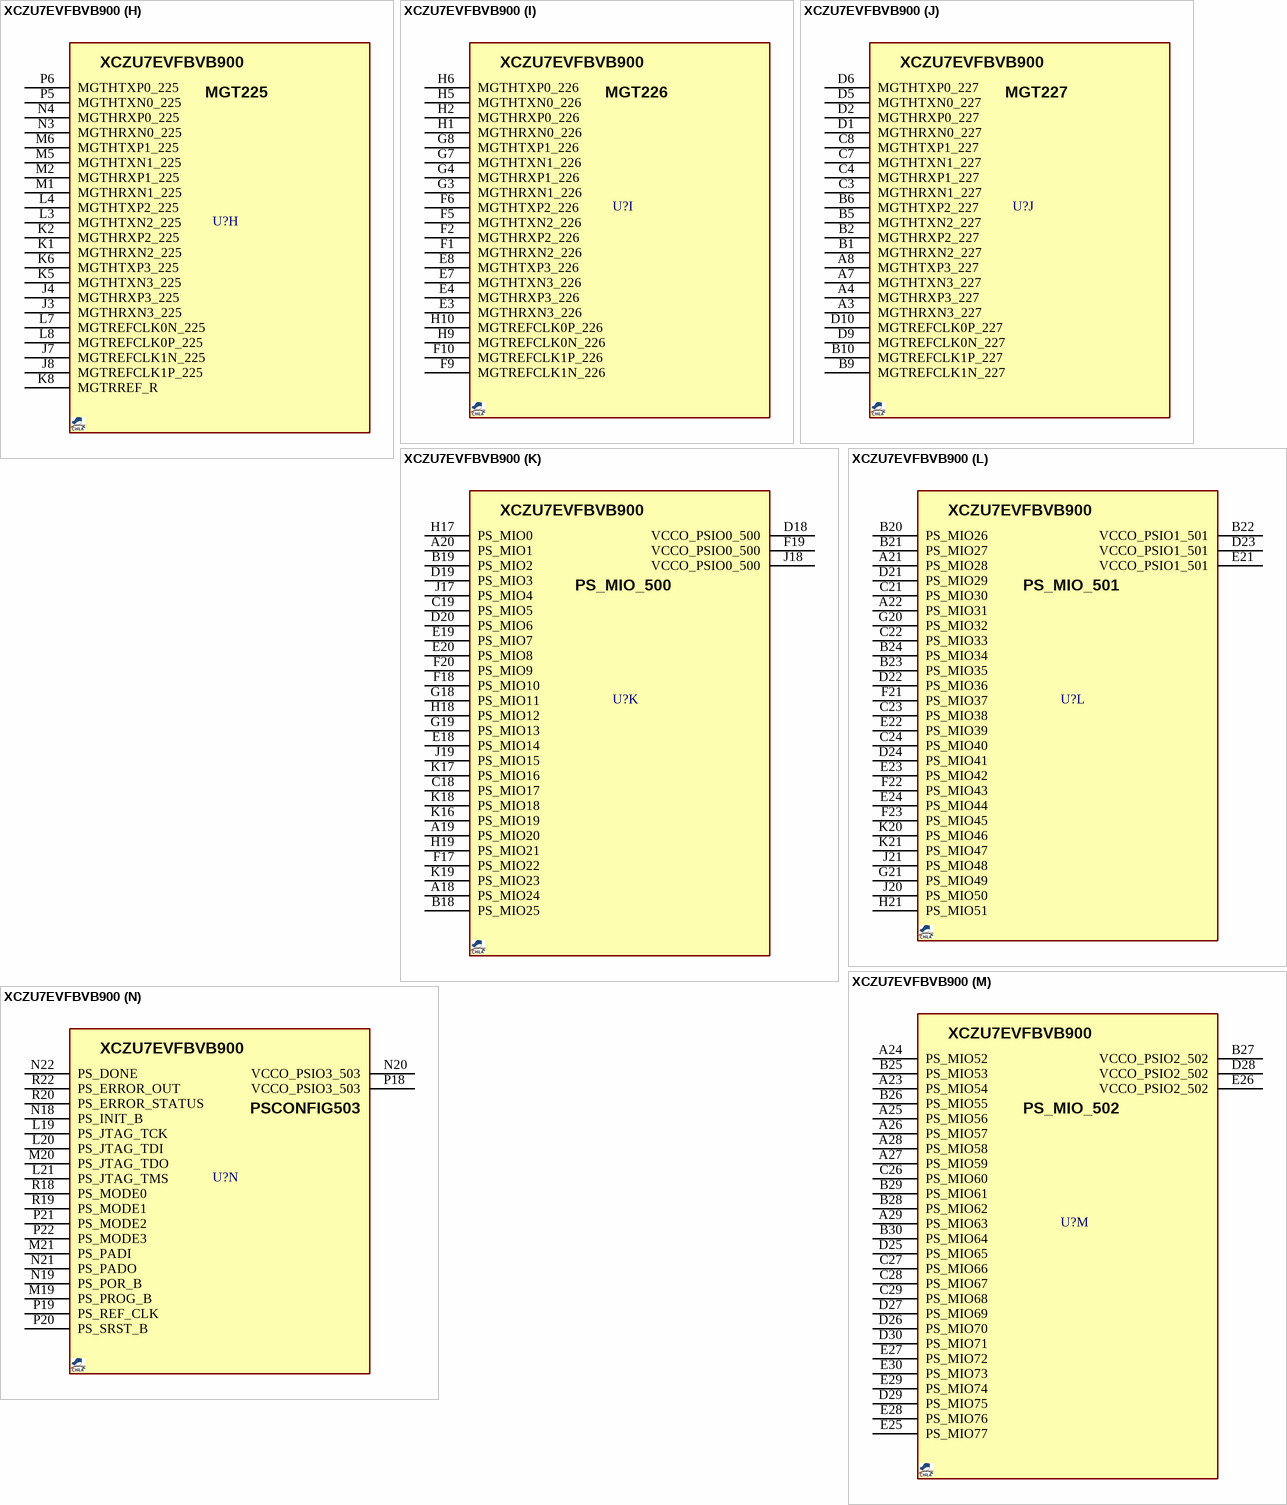
[diagram p22: symbol XCZU7EVFBVB900]

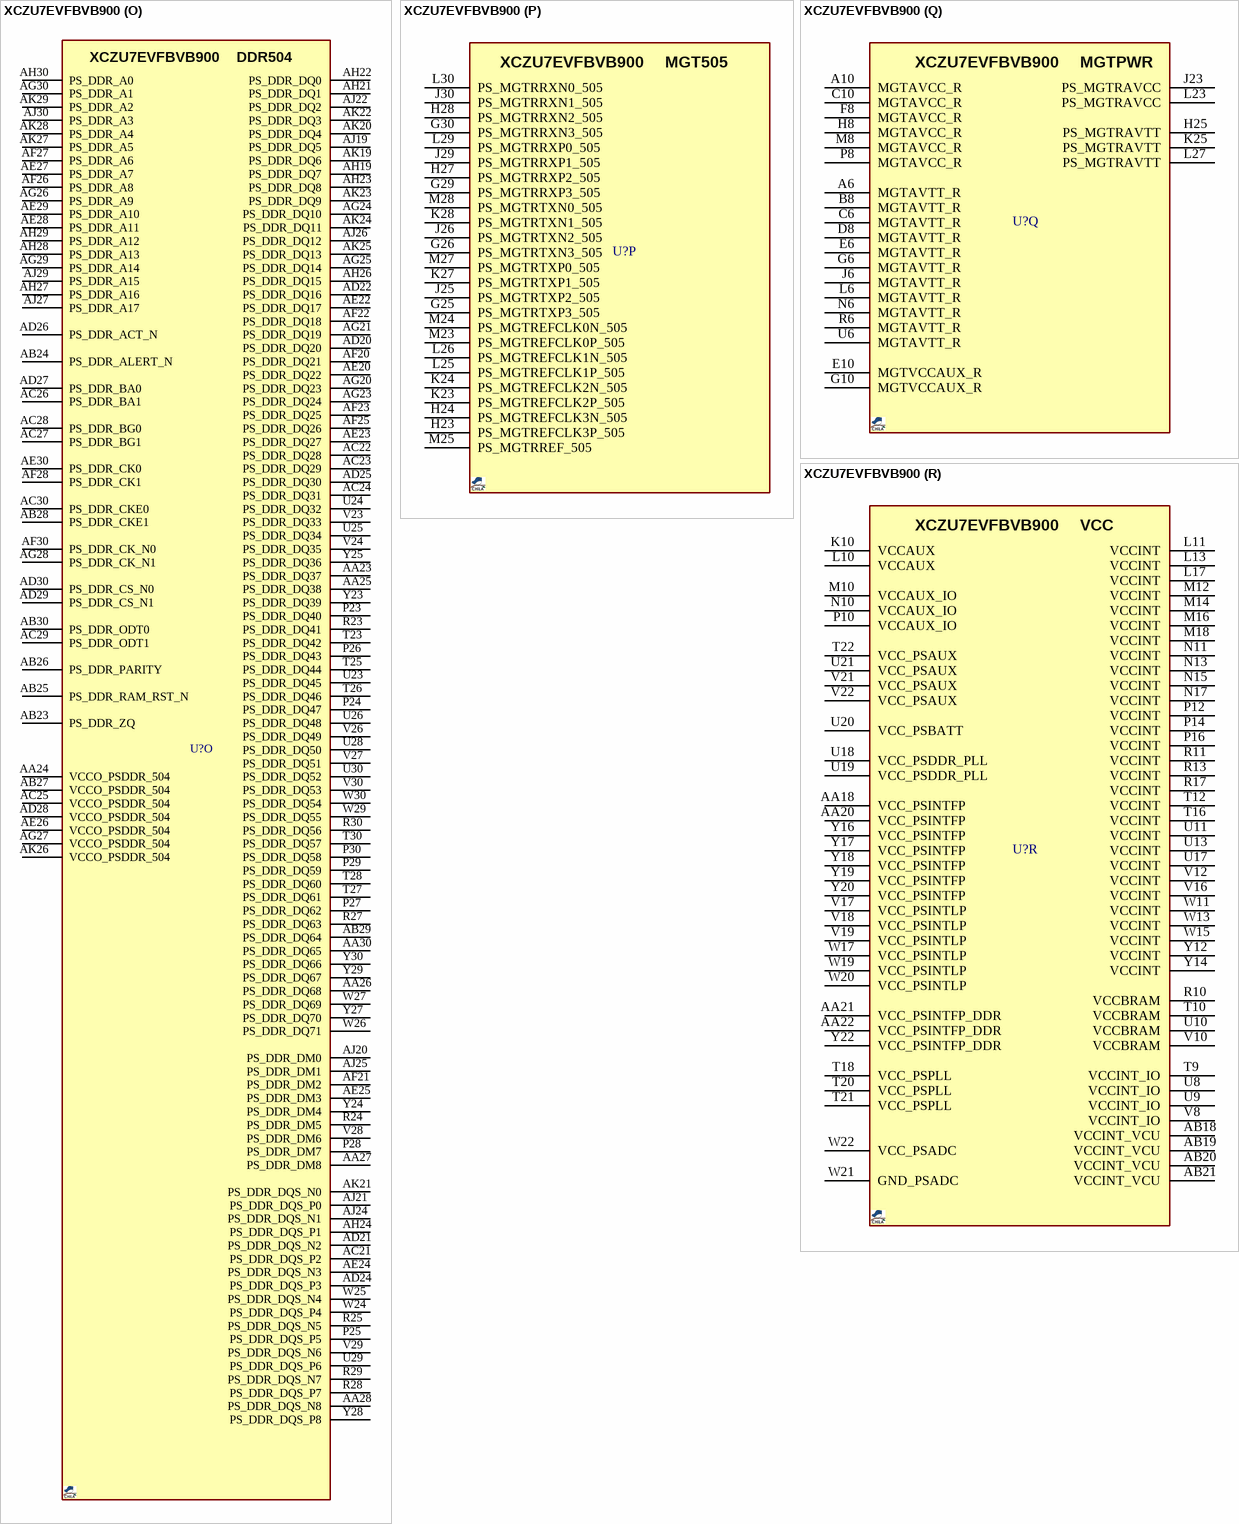
[diagram p23: symbol XCZU7EVFBVB900]

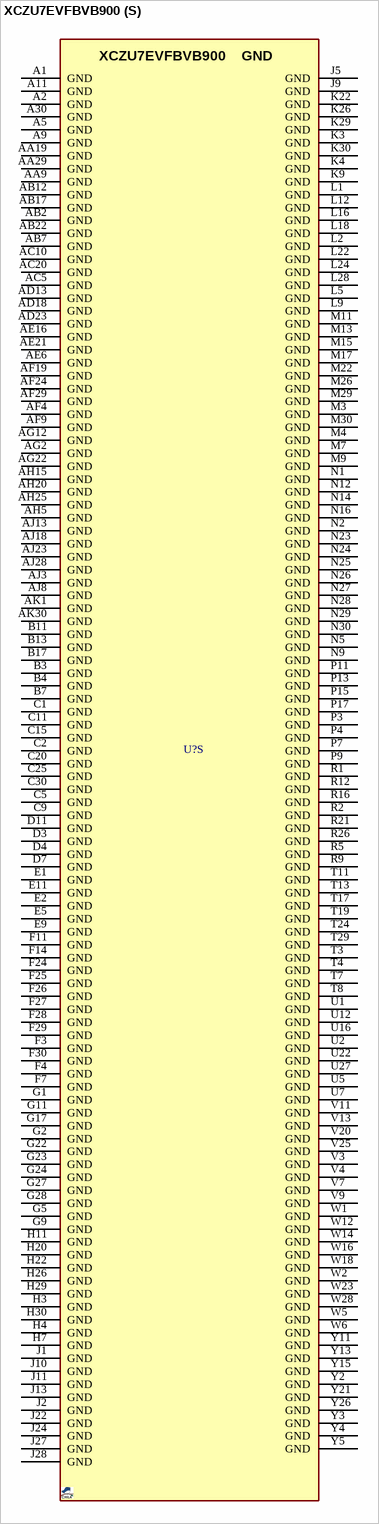
[diagram p24: symbol XCZU7EVFBVB900]